# Altium schematic symbol library MEGA_Library.SchLib: 107 symbols
Pins are listed as number, name and electrical type; pins without a type are passive.

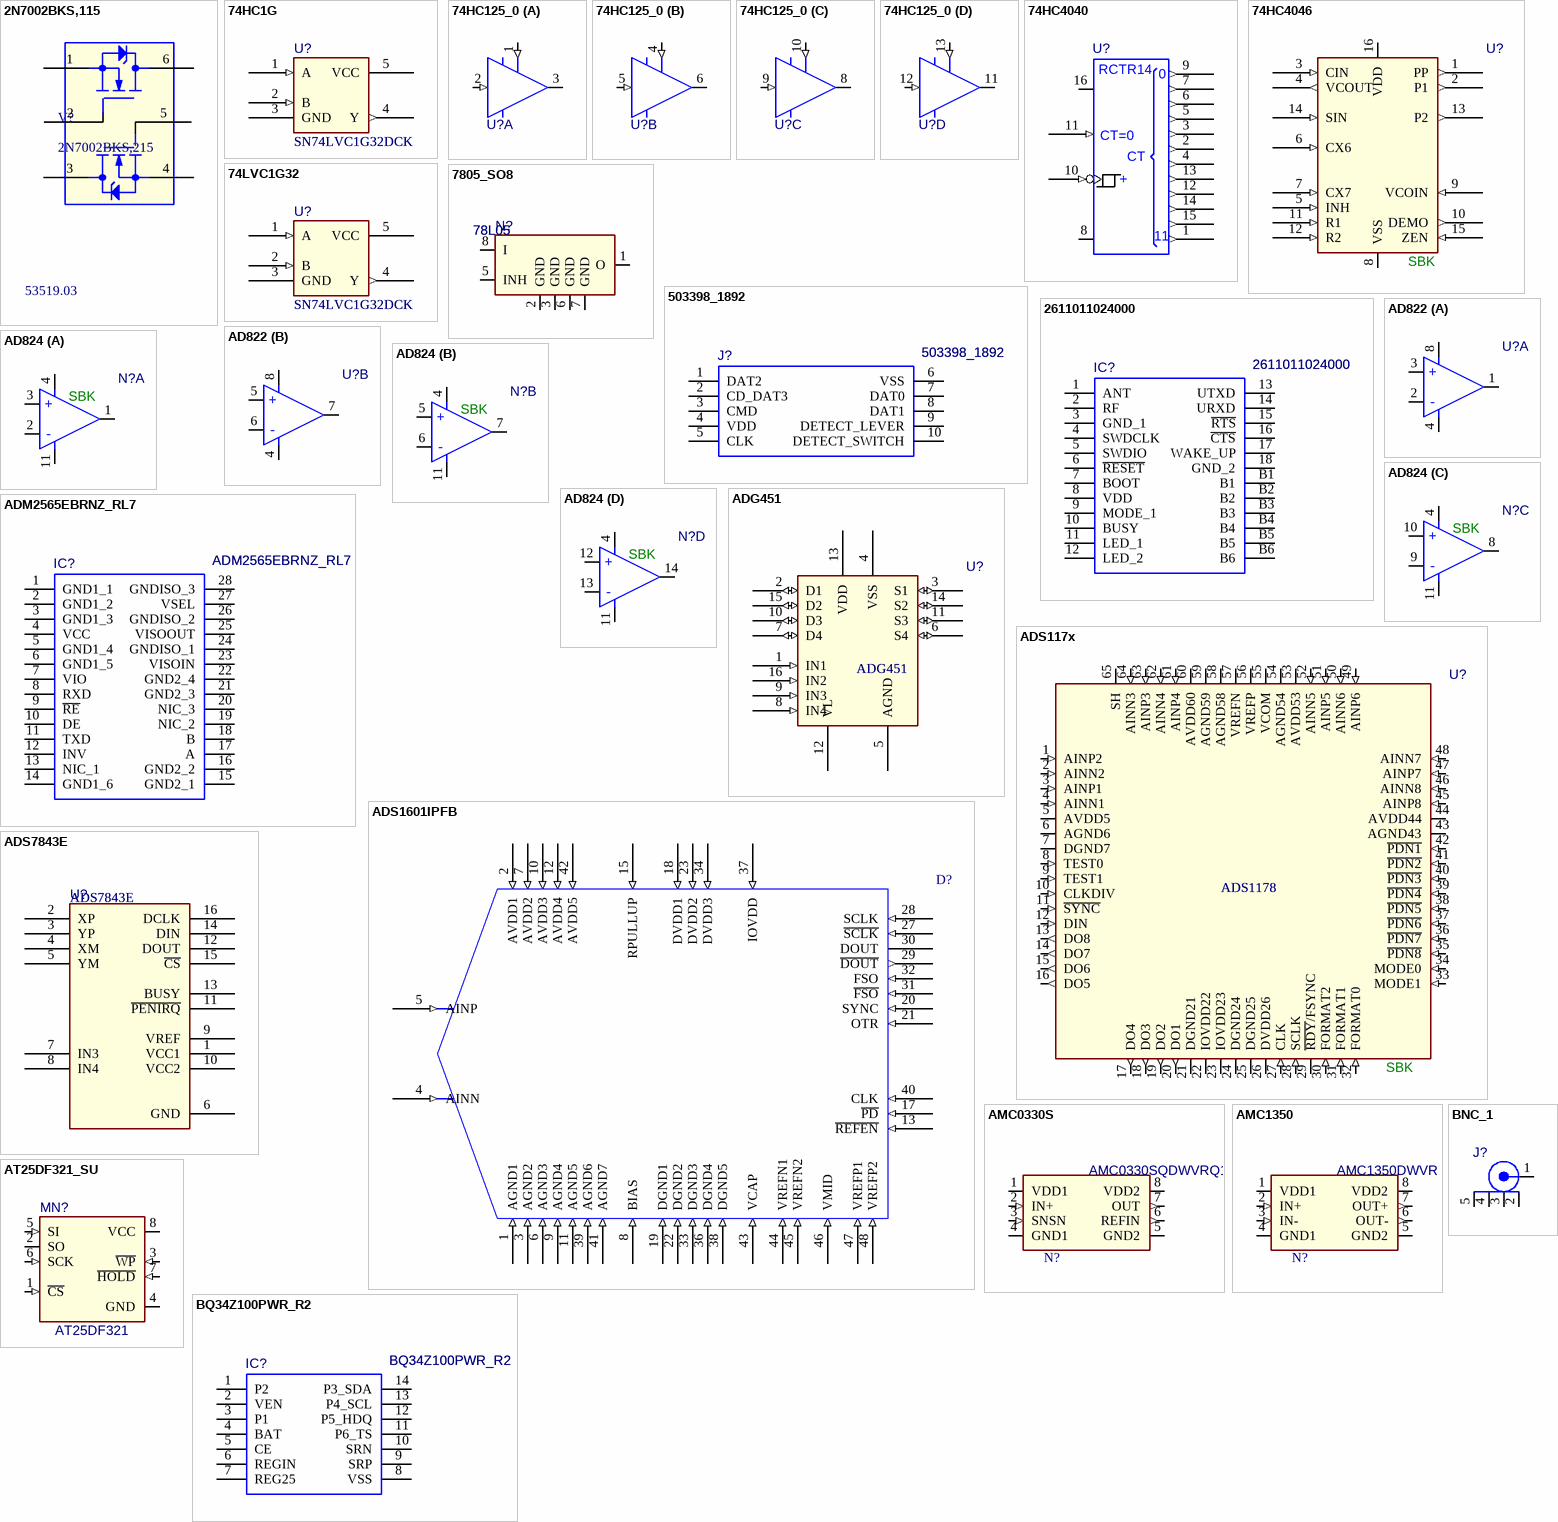
[diagram p0: symbols 2N7002BKS,115 to BQ34Z100PWR_R2]

## 2N7002BKS,115
designator V?, comment 2N7002BKS,215  MEgA_ID: 53519.03
Assembled: Automat; value: 2N7002BKS,215
footprint ZSC70_6
pins: 1 S1, 2 G1, 3 S3, 4 S1, 5 G2, 6 D1

## 74HC1G
designator U?, comment SN74LVC1G32DCK
Value: SN74LVC1G32DCK
footprint SOT-533
pins: 1 A (in), 2 B (in), 3 GND, 4 Y (out), 5 VCC

## 74HC125_0
designator U?
part A pins: 1 ~{OE} (in), 2 I (in), 3 O (hiz), 7 GND (power) hidden to GND, 14 VCC (power) hidden to VCC
part B pins: 4 ~{OE} (in), 5 I (in), 6 O (hiz), 7 GND (power) hidden to GND, 14 VCC (power) hidden to VCC
part C pins: 7 GND (power) hidden to GND, 8 O (hiz), 9 I (in), 10 ~{OE} (in), 14 VCC (power) hidden to VCC
part D pins: 7 GND (power) hidden to GND, 11 O (hiz), 12 I (in), 13 ~{OE} (in), 14 VCC (power) hidden to VCC

## 74HC4040
designator U?
pins: 1 Q12 (out), 2 Q6 (out), 3 Q5 (out), 4 Q7 (out), 5 Q4 (out), 6 Q3 (out), 7 Q2 (out), 8 VSS, 9 Q1 (out), 10 CLK (in), 11 CLR (in), 12 Q9 (out), 13 Q8 (out), 14 Q10 (out), 15 Q11 (out), 16 VDD
text: RCTR14; 0; CT=0; CT; +

## 74HC4046
designator U?  MEGA_ID: SBK
pins: 1 PP (out), 2 P1 (out), 3 CIN (in), 4 VCOUT (out), 5 INH (in), 6 CX6 (in), 7 CX7 (in), 8 VSS, 9 VCOIN (in), 10 DEMO (out), 11 R1 (in), 12 R2 (in), 13 P2 (out), 14 SIN (in), 15 ZEN (in), 16 VDD

## 74LVC1G32
designator U?, comment SN74LVC1G32DCK
Value: SN74LVC1G32DCK
footprint SOT-533
pins: 1 A (in), 2 B (in), 3 GND, 4 Y (out), 5 VCC

## 7805_SO8
designator N?, comment 78L05
Value: 78L05
footprint ZSO8
pins: 1 O, 2 GND, 3 GND, 5 INH, 6 GND, 7 GND, 8 I

## 503398_1892
designator J?
MicroSD SMT Push-Push 1.28mm height MicroSD SMT Push-Push 1.28mm height; Manufacturer_Part_Number: 503398-1892; Manufacturer_Name: Molex; OriginalSymbolOrigin: (0,0); NC: 11,12,13,14; PCB Footprint: 503398-1892-1; DeviceNumbering: Alpha; DeviceDesignator: A; DevicesInPackage: 1; IsHeterogeneous: False; Datasheet Link: http://www.molex.com/webdocs/datasheets/pdf/en-us//5033981892_MEMORY_CARD_SOCKET.pdf; Mouser Part Number: 538-503398-1892; DevicesInView: 1; PackageName: 503398_1892; Value: 503398_1892
footprint 503398-1892-1
pins: 1 DAT2, 2 CD_DAT3, 3 CMD, 4 VDD, 5 CLK, 6 VSS, 7 DAT0, 8 DAT1, 9 DETECT_LEVER, 10 DETECT_SWITCH

## 2611011024000
designator IC?
Bluetooth Modules (802.15.1) WIRL-BTLE Proteus-III Bluetooth 5.1 module; Manufacturer_Name: Wurth Elektronik; IsHeterogeneous: False; DevicesInView: 1; DeviceDesignator: A; DeviceNumbering: Alpha; OriginalSymbolOrigin: (0,0); PackageName: 2611011024000; DevicesInPackage: 1; PCB Footprint: 2611011024000; Mouser Part Number: 710-2611011024000; Manufacturer_Part_Number: 2611011024000; Datasheet Link: https://www.we-online.com/catalog/datasheet/2611011024000.pdf; Height: 2.2 mm; Value: 2611011024000
footprint 2611011024000
pins: 1 ANT, 2 RF, 3 GND_1, 4 SWDCLK, 5 SWDIO, 6 ~{RESET}, 7 BOOT, 8 VDD, 9 MODE_1, 10 BUSY, 11 LED_1, 12 LED_2, 13 UTXD, 14 URXD, 15 ~{RTS}, 16 ~{CTS}, 17 WAKE_UP, 18 GND_2, B1, B2, B3, B4, B5, B6

## AD822
designator U?
part A pins: 1 OUT, 2 -IN, 3 +IN, 4 V-, 8 V+
part B pins: 4 V-, 5 +IN, 6 -IN, 7 OUT, 8 V+
part A text: +; -
part B text: +; -

## AD824
designator N?  MEGA_ID: SBK
part A pins: 1 OUT, 2 IN-, 3 IN+, 4 V+, 11 V-
part B pins: 4 V+, 5 IN+, 6 IN-, 7 OUT, 11 V-
part C pins: 4 V+, 8 OUT, 9 IN-, 10 IN+, 11 V-
part D pins: 4 V+, 11 V-, 12 IN+, 13 IN-, 14 OUT
part A text: +; -
part B text: +; -
part C text: +; -
part D text: +; -

## ADG451
designator U?
Value: ADG451
pins: 1 IN1 (in), 2 D1 (io), 3 S1 (io), 4 VSS, 5 AGND, 6 S4 (io), 7 D4 (io), 8 IN4 (in), 9 IN3 (in), 10 D3 (io), 11 S3 (io), 12 VL, 13 VDD, 14 S2 (io), 15 D2 (io), 16 IN2 (in)

## ADM2565EBRNZ_RL7
designator IC?
1/1 Transceiver, Isolated CANbus 16-SOIC; Manufacturer_Part_Number: ADM2565EBRNZ-RL7; Manufacturer_Name: Analog Devices; OriginalSymbolOrigin: (0,0); PCB Footprint: SOP65P1030X265-28N; DeviceNumbering: Alpha; DeviceDesignator: A; DevicesInPackage: 1; IsHeterogeneous: False; Height: 2.65 mm; Datasheet Link: https://www.analog.com/media/en/technical-documentation/data-sheets/adm2561e_adm2563e_adm2565e_adm2567e.pdf; Mouser Part Number: 584-ADM2565EBRNZ-RL7; DevicesInView: 1; PackageName: ADM2565EBRNZ_RL7; Value: ADM2565EBRNZ_RL7
footprint SOP65P1030X265-28N
pins: 1 GND1_1, 2 GND1_2, 3 GND1_3, 4 VCC, 5 GND1_4, 6 GND1_5, 7 VIO, 8 RXD, 9 ~{RE}, 10 DE, 11 TXD, 12 INV, 13 NIC_1, 14 GND1_6, 15 GND2_1, 16 GND2_2, 17 A, 18 B, 19 NIC_2, 20 NIC_3, 21 GND2_3, 22 GND2_4, 23 VISOIN, 24 GNDISO_1, 25 VISOOUT, 26 GNDISO_2, 27 VSEL, 28 GNDISO_3

## ADS117x
designator U?, comment ADS1178  MEGA_ID: SBK
Value: ADS1178
pins: 1 AINP2 (in), 2 AINN2 (in), 3 AINP1 (in), 4 AINN1 (in), 5 AVDD5, 6 AGND6, 7 DGND7, 8 TEST0 (in), 9 TEST1 (in), 10 CLKDIV (in), 11 ~{SYNC} (in), 12 DIN (in), 13 DO8 (out), 14 DO7 (out), 15 DO6 (out), 16 DO5 (out), 17 DO4 (out), 18 DO3 (out), 19 DO2 (out), 20 DO1 (out), 21 DGND21, 22 IOVDD22, 23 IOVDD23, 24 DGND24, 25 DGND25, 26 DVDD26, 27 CLK (in), 28 SCLK (in), 29 ~{RDY}/FSYNC (io), 30 FORMAT2 (in), 31 FORMAT1 (in), 32 FORMAT0 (in), 33 MODE1 (in), 34 MODE0 (in), 35 ~{PDN8} (in), 36 ~{PDN7} (in), 37 ~{PDN6} (in), 38 ~{PDN5} (in), 39 ~{PDN4} (in), 40 ~{PDN3} (in), 41 ~{PDN2} (in), 42 ~{PDN1} (in), 43 AGND43, 44 AVDD44, 45 AINP8 (in), 46 AINN8 (in), 47 AINP7 (in), 48 AINN7 (in), 49 AINP6 (in), 50 AINN6 (in), 51 AINP5 (in), 52 AINN5 (in), 53 AVDD53, 54 AGND54, 55 VCOM, 56 VREFP, 57 VREFN, 58 AGND58, 59 AGND59, 60 AVDD60, 61 AINP4 (in), 62 AINN4 (in), 63 AINP3 (in), 64 AINN3 (in), 65 SH

## ADS1601IPFB
designator D?  (value not drawn)
pins: 1 AGND1 (in), 2 AVDD1 (in), 3 AGND2 (in), 4 AINN (in), 5 AINP (in), 6 AGND3 (in), 7 AVDD2 (in), 8 BIAS (in), 9 AGND4 (in), 10 AVDD3 (in), 11 AGND5 (in), 12 AVDD4 (in), 13 ~{REFEN} (in), 15 RPULLUP (in), 17 ~{PD} (in), 18 DVDD1 (in), 19 DGND1 (in), 20 SYNC (in), 21 OTR (in), 22 DGND2 (in), 23 DVDD2 (in), 27 ~{SCLK} (in), 28 SCLK (in), 29 ~{DOUT} (out), 30 DOUT, 31 ~{FSO} (in), 32 FSO (in), 33 DGND3 (in), 34 DVDD3 (in), 36 DGND4 (in), 37 IOVDD (in), 38 DGND5 (in), 39 AGND6 (in), 40 CLK (in), 41 AGND7 (in), 42 AVDD5 (in), 43 VCAP (in), 44 VREFN1 (in), 45 VREFN2 (in), 46 VMID (in), 47 VREFP1 (in), 48 VREFP2 (in)

## ADS7843E
designator U?
Value: ADS7843E
pins: 1 VCC1 (power), 2 XP, 3 YP, 4 XM, 5 YM, 6 GND, 7 IN3, 8 IN4, 9 VREF, 10 VCC2 (power), 11 ~{PENIRQ}, 12 DOUT, 13 BUSY, 14 DIN, 15 ~{CS}, 16 DCLK

## AMC0330S
designator N?, comment AMC0330SQDWVRQ1
Value: AMC0330SQDWVRQ1
footprint ZSO8_ISO
pins: 1 VDD1, 2 IN+ (in), 3 SNSN (in), 4 GND1, 5 GND2, 6 REFIN (out), 7 OUT (out), 8 VDD2

## AMC1350
designator N?, comment AMC1350DWVR
Value: AMC1350DWVR
footprint ZSO8_ISO
pins: 1 VDD1, 2 IN+ (in), 3 IN- (in), 4 GND1, 5 GND2, 6 OUT- (out), 7 OUT+ (out), 8 VDD2

## AT25DF321_SU
designator MN?  VAL: AT25DF321  (hidden comment: *)
TEN: 2,7..3,6V; REF: AT25DF321_SU; DESIG: 32 Mb Serial DataFlash; FAB: ATMEL; RoHS: YES
footprint SO8
pins: 1 ~{CS} (in), 2 SO (hiz), 3 ~{WP} (in), 4 GND, 5 SI (in), 6 SCK (in), 7 ~{HOLD} (in), 8 VCC

## BNC_1
designator J?
pins: 1 CENTER, 2 S1, 3 S2, 4 S3, 5 S4

## BQ34Z100PWR_R2
designator IC?
Battery Management Multi-chemistry Impedance Track stand-alone fuel gauge; Manufacturer_Part_Number: BQ34Z100PWR-R2; Manufacturer_Name: Texas Instruments; OriginalSymbolOrigin: (0,0); PCB Footprint: SOP65P640X120-14N; DeviceNumbering: Alpha; DeviceDesignator: A; DevicesInPackage: 1; IsHeterogeneous: False; Height: 1.2 mm; Datasheet Link: https://www.arrow.com/en/products/bq34z100pwr-r2/texas-instruments?region=nac; Mouser Part Number: 595-BQ34Z100PWR-R2; DevicesInView: 1; PackageName: BQ34Z100PWR_R2; Value: BQ34Z100PWR_R2
footprint SOP65P640X120-14N
pins: 1 P2, 2 VEN, 3 P1, 4 BAT, 5 CE, 6 REGIN, 7 REG25, 8 VSS, 9 SRP, 10 SRN, 11 P6_TS, 12 P5_HDQ, 13 P4_SCL, 14 P3_SDA

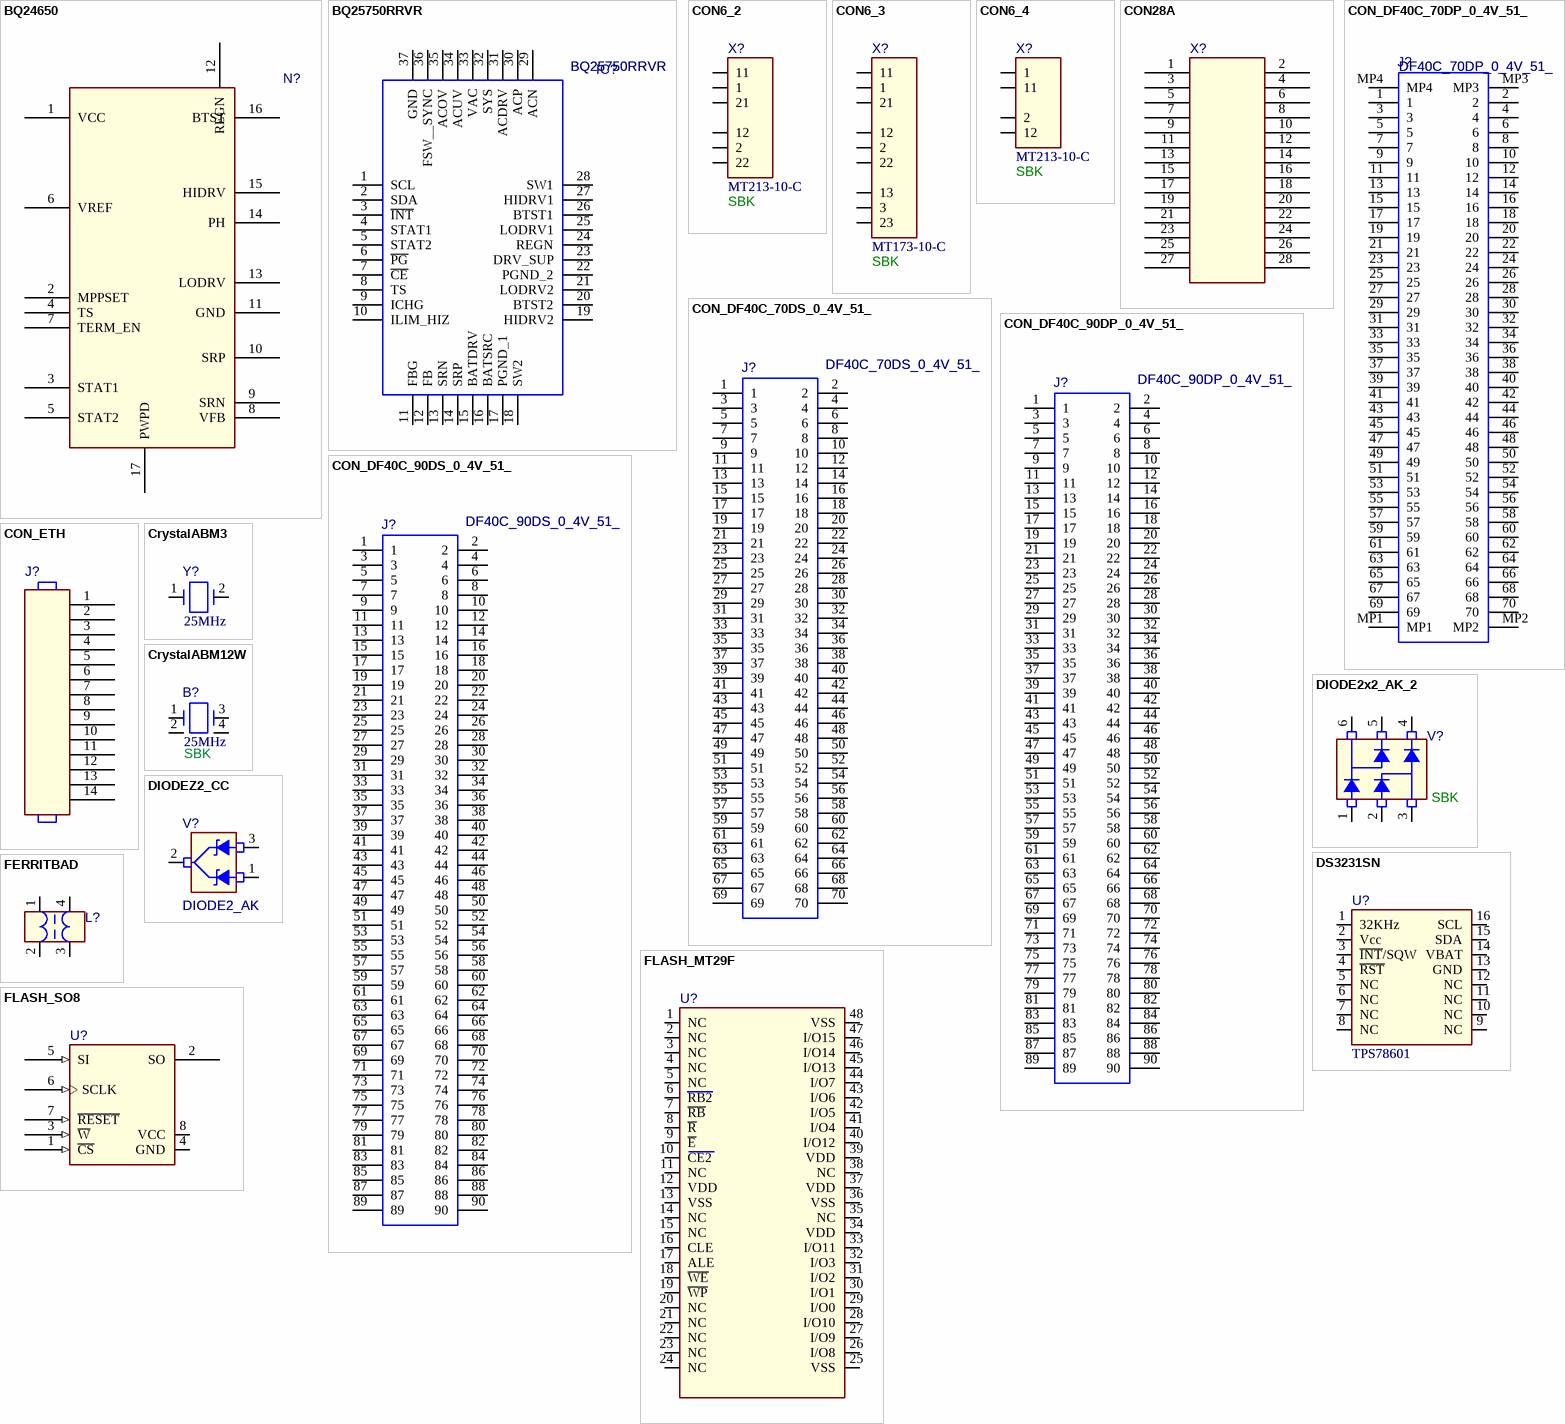
[diagram p1: symbols BQ24650 to FLASH_SO8]

## BQ24650
designator N?
footprint ZVQFN16
pins: 1 VCC, 2 MPPSET, 3 STAT1, 4 TS, 5 STAT2, 6 VREF, 7 TERM_EN, 8 VFB, 9 SRN, 10 SRP, 11 GND, 12 REGN, 13 LODRV, 14 PH, 15 HIDRV, 16 BTST, 17 PWPD

## BQ25750RRVR
designator IC?
Battery Management BQ25750RRVR; Manufacturer_Name: Texas Instruments; OriginalSymbolOrigin: (0,0); PCB Footprint: QFN50P600X500X100-37N-D; DeviceNumbering: Alpha; DeviceDesignator: A; DevicesInPackage: 1; IsHeterogeneous: False; Height: 1 mm; Datasheet Link: https://www.ti.com/lit/ds/symlink/bq25750.pdf?ts=1706776852121&ref_url=httpsýAüFüFwww.ti.comüFproductüFBQ25750; Manufacturer_Part_Number: BQ25750RRVR; Mouser Part Number: 595-BQ25750RRVR; DevicesInView: 1; PackageName: BQ25750RRVR; Value: BQ25750RRVR
footprint QFN50P600X500X100-37N-D
pins: 1 SCL, 2 SDA, 3 ~{INT}, 4 STAT1, 5 STAT2, 6 ~{PG}, 7 ~{CE}, 8 TS, 9 ICHG, 10 ILIM_HIZ, 11 FBG, 12 FB, 13 SRN, 14 SRP, 15 BATDRV, 16 BATSRC, 17 PGND_1, 18 SW2, 19 HIDRV2, 20 BTST2, 21 LODRV2, 22 PGND_2, 23 DRV_SUP, 24 REGN, 25 LODRV1, 26 BTST1, 27 HIDRV1, 28 SW1, 29 ACN, 30 ACP, 31 ACDRV, 32 SYS, 33 VAC, 34 ACUV, 35 ACOV, 36 FSW__SYNC, 37 GND

## CON6_2
designator X?, comment MT213-10-C  MEGA_ID: SBK
Value: MT213-10-C
pins: 1, 2, 11, 12, 21, 22

## CON6_3
designator X?, comment MT173-10-C  MEGA_ID: SBK
Value: MT173-10-C
pins: 1, 2, 3, 11, 12, 13, 21, 22, 23

## CON6_4
designator X?, comment MT213-10-C  MEGA_ID: SBK
Value: MT213-10-C
pins: 1, 2, 11, 12

## CON28A
designator X?
pins: 1, 2, 3, 4, 5, 6, 7, 8, 9, 10, 11, 12, 13, 14, 15, 16, 17, 18, 19, 20, 21, 22, 23, 24, 25, 26, 27, 28

## CON_DF40C_70DP_0_4V_51_
designator J?, comment DF40C_70DP_0_4V_51_
Board to Board & Mezzanine Connectors 0.4MM 70P HDR SMT GOLD; Manufacturer_Part_Number: DF40C-70DP-0.4V(51); Manufacturer_Name: Hirose; OriginalSymbolOrigin: (0,0); PCB Footprint: DF40C70DP04V51; DeviceNumbering: Alpha; DeviceDesignator: A; DevicesInPackage: 1; IsHeterogeneous: False; Height: 1.29 mm; Datasheet Link: https://componentsearchengine.com/Datasheets/1/DF40C-70DP-0.4V(51).pdf; Mouser Part Number: 798-DF40C70DP04V51; DevicesInView: 1; PackageName: DF40C_70DP_0_4V_51_; Value: DF40C_70DP_0_4V_51_
footprint DF40C70DP04V51
pins: 1, 2, 3, 4, 5, 6, 7, 8, 9, 10, 11, 12, 13, 14, 15, 16, 17, 18, 19, 20, 21, 22, 23, 24, 25, 26, 27, 28, 29, 30, 31, 32, 33, 34, 35, 36, 37, 38, 39, 40, 41, 42, 43, 44, 45, 46, 47, 48, 49, 50, 51, 52, 53, 54, 55, 56, 57, 58, 59, 60, 61, 62, 63, 64, 65, 66, 67, 68, 69, 70, MP1, MP2, MP3, MP4

## CON_DF40C_70DS_0_4V_51_
designator J?, comment DF40C_70DS_0_4V_51_
Board to Board & Mezzanine Connectors 0.4MM 70P RECPT SMT GOLD; Manufacturer_Part_Number: DF40C-70DS-0.4V(51); Manufacturer_Name: Hirose; OriginalSymbolOrigin: (0,0); PCB Footprint: DF40C-70DS-0_4V_51_; DeviceNumbering: Alpha; DeviceDesignator: A; DevicesInPackage: 1; IsHeterogeneous: False; Arrow Price/Stock: https://www.arrow.com/en/products/df40c-70ds-0.4v-51/hirose-electric; Arrow Part Number: DF40C-70DS-0.4V(51); Mouser Part Number: 798-DF40C70DS04V51; DevicesInView: 1; PackageName: DF40C_70DS_0_4V_51_; Value: DF40C_70DS_0_4V_51_
footprint DF40C-70DS-0_4V_51_
pins: 1, 2, 3, 4, 5, 6, 7, 8, 9, 10, 11, 12, 13, 14, 15, 16, 17, 18, 19, 20, 21, 22, 23, 24, 25, 26, 27, 28, 29, 30, 31, 32, 33, 34, 35, 36, 37, 38, 39, 40, 41, 42, 43, 44, 45, 46, 47, 48, 49, 50, 51, 52, 53, 54, 55, 56, 57, 58, 59, 60, 61, 62, 63, 64, 65, 66, 67, 68, 69, 70

## CON_DF40C_90DP_0_4V_51_
designator J?, comment DF40C_90DP_0_4V_51_
Board to Board & Mezzanine Connectors 0.4MM 90P SMT HEADR VERT NO FITTING; Manufacturer_Part_Number: DF40C-90DP-0.4V(51); Manufacturer_Name: Hirose; OriginalSymbolOrigin: (0,0); PCB Footprint: DF40C90DP04V51; DeviceNumbering: Alpha; DeviceDesignator: A; DevicesInPackage: 1; IsHeterogeneous: False; Height: 1.29 mm; Datasheet Link: https://www.mouser.com/datasheet/2/185/F40_CL0594-5578-0-00_2d-1613514.pdf; Mouser Part Number: 798-DF40C90DP0.4V51; DevicesInView: 1; PackageName: DF40C_90DP_0_4V_51_; Value: DF40C_90DP_0_4V_51_
footprint DF40C90DP04V51
pins: 1, 2, 3, 4, 5, 6, 7, 8, 9, 10, 11, 12, 13, 14, 15, 16, 17, 18, 19, 20, 21, 22, 23, 24, 25, 26, 27, 28, 29, 30, 31, 32, 33, 34, 35, 36, 37, 38, 39, 40, 41, 42, 43, 44, 45, 46, 47, 48, 49, 50, 51, 52, 53, 54, 55, 56, 57, 58, 59, 60, 61, 62, 63, 64, 65, 66, 67, 68, 69, 70, 71, 72, 73, 74, 75, 76, 77, 78, 79, 80, 81, 82, 83, 84, 85, 86, 87, 88, 89, 90

## CON_DF40C_90DS_0_4V_51_
designator J?, comment DF40C_90DS_0_4V_51_
HIROSE(HRS) - DF40C-90DS-0.4V(51) - CONNECTOR, STACKING, RCPT, 90POS, 2ROW; OriginalSymbolOrigin: (0,0); PCB Footprint: DF40C-90DS-0_4V; DeviceNumbering: Alpha; DeviceDesignator: A; DevicesInPackage: 1; IsHeterogeneous: False; Mouser Part Number: 798-DF40C90DS0.4V51; Manufacturer_Part_Number: DF40C-90DS-0.4V(51); Manufacturer_Name: Hirose; DevicesInView: 1; PackageName: DF40C_90DS_0_4V_51_; Value: DF40C_90DS_0_4V_51_
footprint DF40C-90DS-0_4V
pins: 1, 2, 3, 4, 5, 6, 7, 8, 9, 10, 11, 12, 13, 14, 15, 16, 17, 18, 19, 20, 21, 22, 23, 24, 25, 26, 27, 28, 29, 30, 31, 32, 33, 34, 35, 36, 37, 38, 39, 40, 41, 42, 43, 44, 45, 46, 47, 48, 49, 50, 51, 52, 53, 54, 55, 56, 57, 58, 59, 60, 61, 62, 63, 64, 65, 66, 67, 68, 69, 70, 71, 72, 73, 74, 75, 76, 77, 78, 79, 80, 81, 82, 83, 84, 85, 86, 87, 88, 89, 90

## CON_ETH
designator J?
pins: 1, 2, 3, 4, 5, 6, 7, 8, 9, 10, 11, 12, 13, 14

## CrystalABM3
designator Y?, comment 25MHz
PCB Footprint: smdABM; Value: 25MHz
footprint SM_OSC_ABM3
pins: 1, 2

## CrystalABM12W
designator B?, comment 25MHz  MEGA_ID: SBK
Value: 25MHz
footprint ZABM12W
pins: 1, 2, 3, 4

## DIODE2x2_AK_2
designator V?  MEGA_ID: SBK
footprint ZSOT363
pins: 1 A1, 2 A2, 3 AK2, 4 K2, 5 K1, 6 AK1

## DIODEZ2_CC
designator V?, comment DIODE2_AK
Value: DIODE2_AK
footprint ZSOT23
pins: 1 A1, 2 K1K2, 3 A2

## DS3231SN
designator U?, comment TPS78601
Single Output LDO, 1.5A, Adj. 1.2 to 5.5V; PartName: U - TPS78601-ADJ LDO; Mfr: TI; MfrNum: TPS78601DCQ; Vendor: Digikey; VendorNum: 296-13755-1-ND; Cost100: 1.89; Cost10K: 1.654; TI Footprint: SOT-223; Value: TPS78601
footprint SMT-DCQ
pins: 1 32KHz, 2 Vcc, 3 ~{INT}/SQW, 4 ~{RST}, 5 NC, 6 NC, 7 NC, 8 NC, 9 NC, 10 NC, 11 NC, 12 NC, 13 GND, 14 VBAT, 15 SDA, 16 SCL

## FERRITBAD
designator L?
pins: 1, 2, 3, 4

## FLASH_MT29F
designator U?
pins: 1 NC, 2 NC, 3 NC, 4 NC, 5 NC, 6 RB2, 7 ~{RB}, 8 ~{R}, 9 ~{E}, 10 CE2, 11 NC, 12 VDD, 13 VSS, 14 NC, 15 NC, 16 CLE, 17 ALE, 18 ~{WE}, 19 ~{WP}, 20 NC, 21 NC, 22 NC, 23 NC, 24 NC, 25 VSS, 26 I/O8, 27 I/O9, 28 I/O10, 29 I/O0, 30 I/O1, 31 I/O2, 32 I/O3, 33 I/O11, 34 VDD, 35 NC, 36 VSS, 37 VDD, 38 NC, 39 VDD, 40 I/O12, 41 I/O4, 42 I/O5, 43 I/O6, 44 I/O7, 45 I/O13, 46 I/O14, 47 I/O15, 48 VSS

## FLASH_SO8
designator U?
pins: 1 ~{CS} (in), 2 SO (hiz), 3 ~{W} (in), 4 GND, 5 SI (in), 6 SCLK (in), 7 ~{RESET} (in), 8 VCC

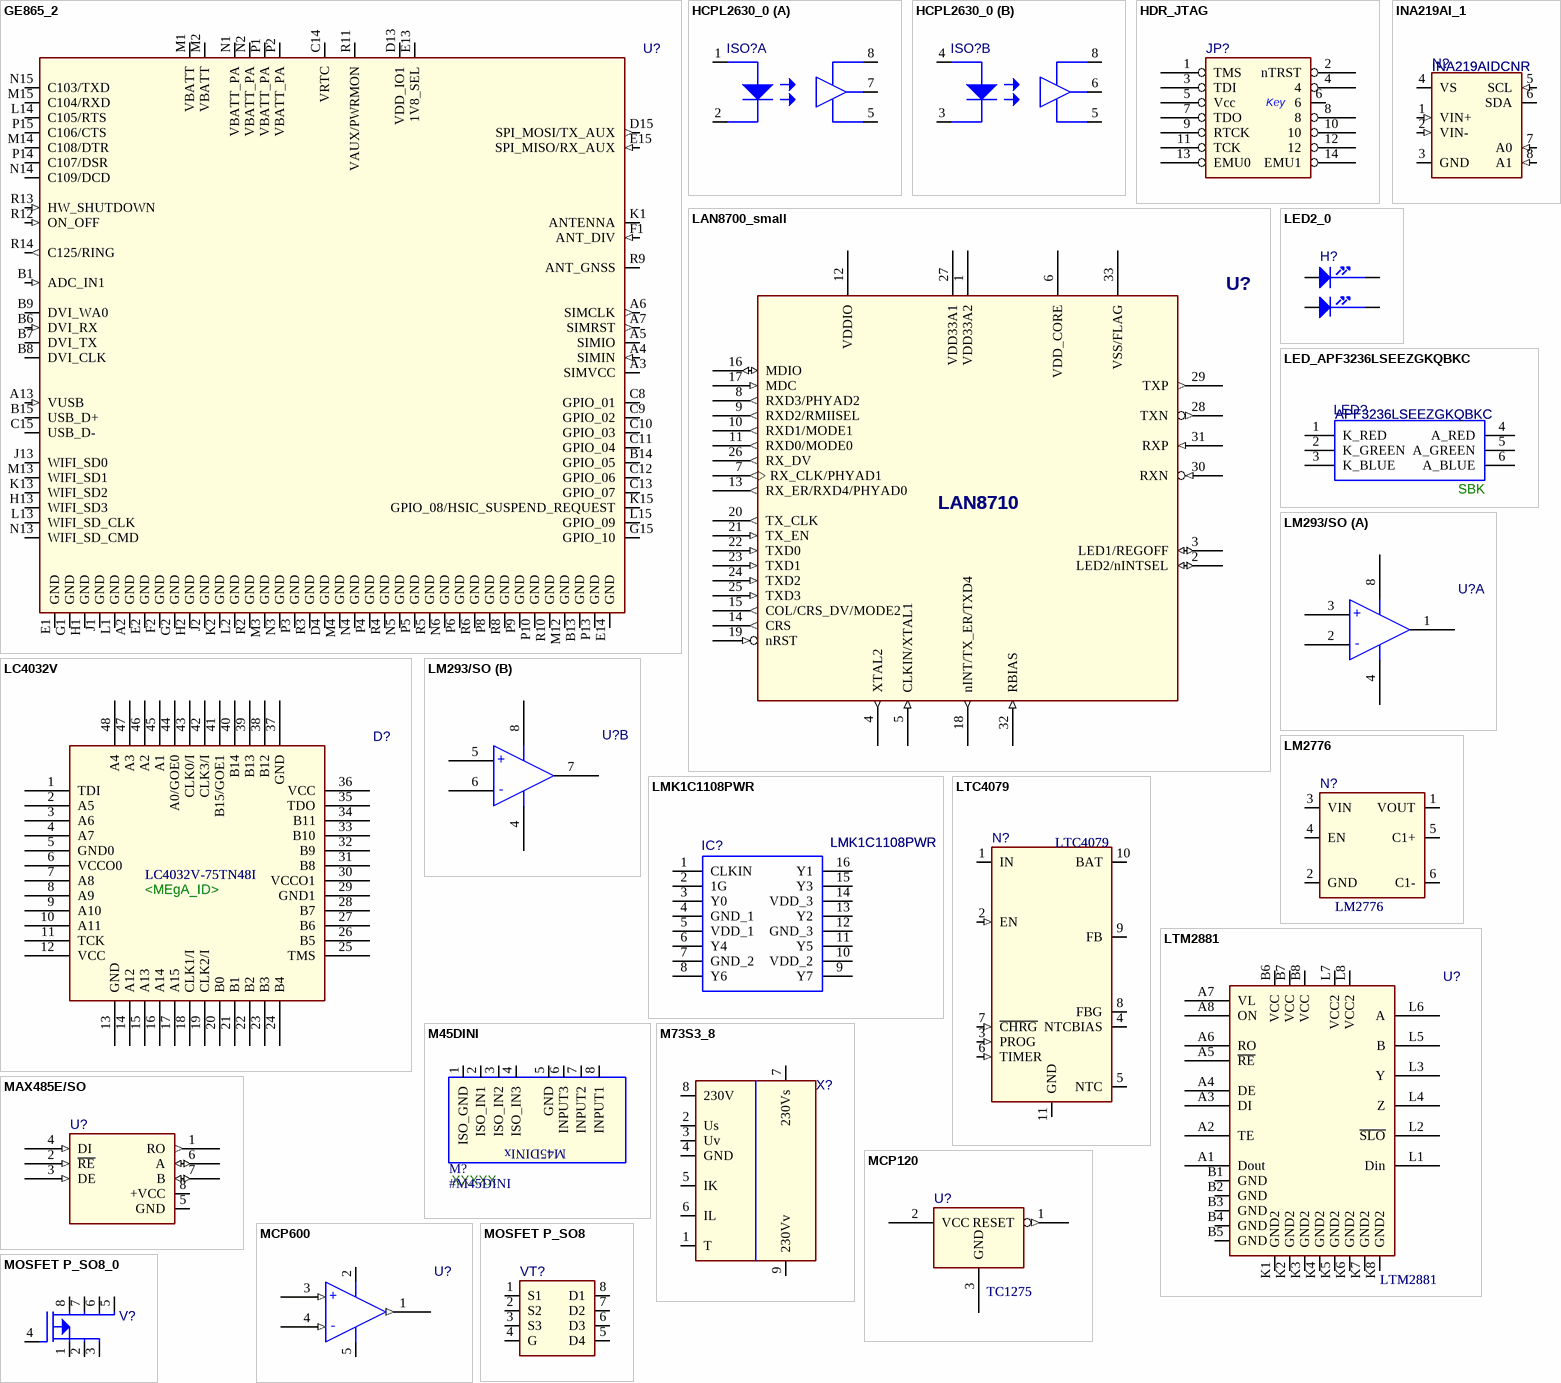
[diagram p2: symbols GE865_2 to MOSFET P_SO8_0]

## GE865_2
designator U?
pins: A2 GND, A3 SIMVCC (power), A4 SIMIN (in), A5 SIMIO (io), A6 SIMCLK (out), A7 SIMRST (out), A13 VUSB (in), B1 ADC_IN1 (in), B6 DVI_RX (in), B7 DVI_TX (io), B8 DVI_CLK (io), B9 DVI_WA0 (io), B13 GND, B14 GPIO_05 (io), B15 USB_D+ (io), C8 GPIO_01 (io), C9 GPIO_02 (io), C10 GPIO_03 (io), C11 GPIO_04 (io), C12 GPIO_06 (io), C13 GPIO_07 (io), C14 VRTC, C15 USB_D- (io), D4 GND, D13 VDD_IO1, D15 SPI_MOSI/TX_AUX (out), E1 GND, E2 GND, E13 1V8_SEL, E14 GND, E15 SPI_MISO/RX_AUX (in), F1 ANT_DIV (in), F2 GND, G1 GND, G2 GND, G15 GPIO_10 (io), H1 GND, H2 GND, H13 WIFI_SD3 (io), J1 GND, J2 GND, J13 WIFI_SD0 (io), K1 ANTENNA (io), K2 GND, K13 WIFI_SD2 (io), K15 GPIO_08/HSIC_SUSPEND_REQUEST (io), L1 GND, L2 GND, L13 WIFI_SD_CLK (io), L14 C105/RTS, L15 GPIO_09 (io), M1 VBATT, M2 VBATT, M3 GND, M4 GND, M12 GND, M13 WIFI_SD1 (io), M14 C108/DTR, M15 C104/RXD, N1 VBATT_PA, N2 VBATT_PA, N3 GND, N4 GND, N5 GND, N6 GND, N13 WIFI_SD_CMD (io), N14 C109/DCD, N15 C103/TXD, P1 VBATT_PA, P2 VBATT_PA, P3 GND, P4 GND, P5 GND, P6 GND, P8 GND, P9 GND, P10 GND, P13 GND, P14 C107/DSR, P15 C106/CTS, R2 GND, R3 GND, R4 GND, R5 GND, R6 GND, R8 GND, R9 ANT_GNSS (io), R10 GND, R11 VAUX/PWRMON, R12 ON_OFF (in), R13 HW_SHUTDOWN (in), R14 C125/RING (out)

## HCPL2630_0
designator ISO?
part A pins: 1 A, 2 K, 5 GND, 7 OUTPUT, 8 VCC
part B pins: 3 K, 4 A, 5 GND, 6 OUTPUT, 8 VCC
1 alternate drawing of the same symbol

## HDR_JTAG
designator JP?
footprint HDR_7X2
pins: 1 TMS, 2 nTRST, 3 TDI, 4, 5 Vcc, 6, 7 TDO, 8, 9 RTCK, 10, 11 TCK, 12, 13 EMU0, 14 EMU1
text: Key

## INA219AI_1
designator N?, comment INA219AIDCNR
Value: INA219AIDCNR
footprint TO92A
pins: 1 VIN+ (in), 2 VIN- (in), 3 GND, 4 VS, 5 SCL (in), 6 SDA (io), 7 A0 (in), 8 A1 (in)

## LAN8700_small
designator U?, comment LAN8710
Value: LAN8710
pins: 1 VDD33A2, 2 LED2/nINTSEL (io), 3 LED1/REGOFF (io), 4 XTAL2 (out), 5 CLKIN/XTAL1 (in), 6 VDD_CORE, 7 RX_CLK/PHYAD1 (out), 8 RXD3/PHYAD2 (out), 9 RXD2/RMIISEL (out), 10 RXD1/MODE1 (out), 11 RXD0/MODE0 (out), 12 VDDIO, 13 RX_ER/RXD4/PHYAD0 (out), 14 CRS (out), 15 COL/CRS_DV/MODE2 (out), 16 MDIO (io), 17 MDC (in), 18 nINT/TX_ER/TXD4 (out), 19 nRST (in), 20 TX_CLK (out), 21 TX_EN (in), 22 TXD0 (in), 23 TXD1 (in), 24 TXD2 (in), 25 TXD3 (in), 26 RX_DV (out), 27 VDD33A1, 28 TXN (out), 29 TXP (out), 30 RXN (in), 31 RXP (in), 32 RBIAS (in), 33 VSS/FLAG

## LC4032V
designator D?, comment LC4032V-75TN48I  MEgA_ID: <MEgA_ID>
Value: LC4032V-75TN48I
footprint ZTQFP48
pins: 1 TDI, 2 A5, 3 A6, 4 A7, 5 GND0, 6 VCCO0, 7 A8, 8 A9, 9 A10, 10 A11, 11 TCK, 12 VCC, 13 GND, 14 A12, 15 A13, 16 A14, 17 A15, 18 CLK1/I, 19 CLK2/I, 20 B0, 21 B1, 22 B2, 23 B3, 24 B4, 25 TMS, 26 B5, 27 B6, 28 B7, 29 GND1, 30 VCCO1, 31 B8, 32 B9, 33 B10, 34 B11, 35 TDO, 36 VCC, 37 GND, 38 B12, 39 B13, 40 B14, 41 B15/GOE1, 42 CLK3/I, 43 CLK0/I, 44 A0/GOE0, 45 A1, 46 A2, 47 A3, 48 A4

## LED2_0
designator H?
pins: 1 A, 2 K, 3 A, 4 K

## LED_APF3236LSEEZGKQBKC
designator LED?, comment APF3236LSEEZGKQBKC  MEGA_ID: SBK
Standard LEDs - SMD 3.2x3.6MM LOW CU RGB SMD 3.2 mm x 3.6 mm Full-Color Surface Mount LED Lamp; Manufacturer_Name: Kingbright; IsHeterogeneous: False; DevicesInView: 1; DeviceDesignator: A; DeviceNumbering: Alpha; OriginalSymbolOrigin: (0,0); PackageName: APF3236LSEEZGKQBKC; DevicesInPackage: 1; PCB Footprint: APF3236LSEEZGKQBKC; Manufacturer_Part_Number: APF3236LSEEZGKQBKC; Mouser Part Number: 604-APF3236LSEEZGKQB; Arrow Part Number: APF3236LSEEZGKQBKC; Arrow Price/Stock: https://www.arrow.com/en/products/apf3236lseezgkqbkc/kingbright; Datasheet Link: https://static6.arrow.com/aropdfconversion/7b6029bc286460b194d919f4cef09b67dfbc1901/apf3236lseezgkqbkc.pdf; Height: 1.1 mm; Value: APF3236LSEEZGKQBKC
footprint APF3236LSEEZGKQBKC
pins: 1 K_RED, 2 K_GREEN, 3 K_BLUE, 4 A_RED, 5 A_GREEN, 6 A_BLUE

## LM293/SO
designator U?
part A pins: 1 OUT, 2 -IN, 3 +IN, 4 V-, 8 V+
part B pins: 4 V-, 5 +IN, 6 -IN, 7 OUT, 8 V+
part A text: +; -
part B text: +; -

## LM2776
designator N?
Value: LM2776
footprint SOT23-6
pins: 1 VOUT, 2 GND, 3 VIN, 4 EN, 5 C1+ (oe), 6 C1- (oc)

## LMK1C1108PWR
designator IC?
Manufacturer_Name: Texas Instruments; OriginalSymbolOrigin: (0,0); PCB Footprint: SOP65P640X120-16N; DeviceNumbering: Alpha; DeviceDesignator: A; DevicesInPackage: 1; IsHeterogeneous: False; Height: 1.2 mm; Datasheet Link: https://www.ti.com/lit/ds/symlink/lmk1c1108.pdf; Manufacturer_Part_Number: LMK1C1108PWR; Mouser Part Number: 595-LMK1C1108PWR; DevicesInView: 1; PackageName: LMK1C1108PWR; Value: LMK1C1108PWR
footprint SOP65P640X120-16N
pins: 1 CLKIN, 2 1G, 3 Y0, 4 GND_1, 5 VDD_1, 6 Y4, 7 GND_2, 8 Y6, 9 Y7, 10 VDD_2, 11 Y5, 12 GND_3, 13 Y2, 14 VDD_3, 15 Y3, 16 Y1

## LTC4079
designator N?
Value: LTC4079
footprint ZDQFN10
pins: 1 IN, 2 EN (in), 3 PROG (in), 4 NTCBIAS, 5 NTC, 6 TIMER (in), 7 ~{CHRG} (in), 8 FBG, 9 FB, 10 BAT, 11 GND

## LTM2881
designator U?
Value: LTM2881
pins: A1 Dout, A2 TE, A3 DI, A4 DE, A5 ~{RE}, A6 RO, A7 VL, A8 ON, B1 GND, B2 GND, B3 GND, B4 GND, B5 GND, B6 VCC, B7 VCC, B8 VCC, K1 GND2, K2 GND2, K3 GND2, K4 GND2, K5 GND2, K6 GND2, K7 GND2, K8 GND2, L1 Din, L2 ~{SLO}, L3 Y, L4 Z, L5 B, L6 A, L7 VCC2, L8 VCC2

## M45DINI
designator M?, comment #M45DINI  MEgA_ID: XXXXX
Assembled: Manual; Value: #M45DINI
footprint M45DINIx
pins: 1 ISO_GND (power), 2 ISO_IN1 (power), 3 ISO_IN2 (power), 4 ISO_IN3 (power), 5 GND (power), 6 INPUT3 (power), 7 INPUT2 (power), 8 INPUT1 (power)
text: M45DINIx

## M73S3_8
designator X?
pins: 1 T, 2 Us, 3 Uv, 4 GND, 5 IK, 6 IL, 7 230Vs, 8 230V, 9 230Vv

## MAX485E/SO
designator U?
pins: 1 RO (out), 2 ~{RE} (in), 3 DE (in), 4 DI (in), 5 GND, 6 A (io), 7 B (io), 8 +VCC

## MCP120
designator U?, comment TC1275
Value: TC1275
pins: 1 RESET (out), 2 VCC (power), 3 GND (power)

## MCP600
designator U?
pins: 1 OUT (out), 2 VCC, 3 +IN (in), 4 -IN (in), 5 VEE
text: +; -

## MOSFET P_SO8
designator VT?
pins: 1 S1, 2 S2, 3 S3, 4 G, 5 D4, 6 D3, 7 D2, 8 D1

## MOSFET P_SO8_0
designator V?
footprint ZSO8
pins: 1 S1, 2 S2, 3 S3, 4 G, 5 D4, 6 D3, 7 D2, 8 D1

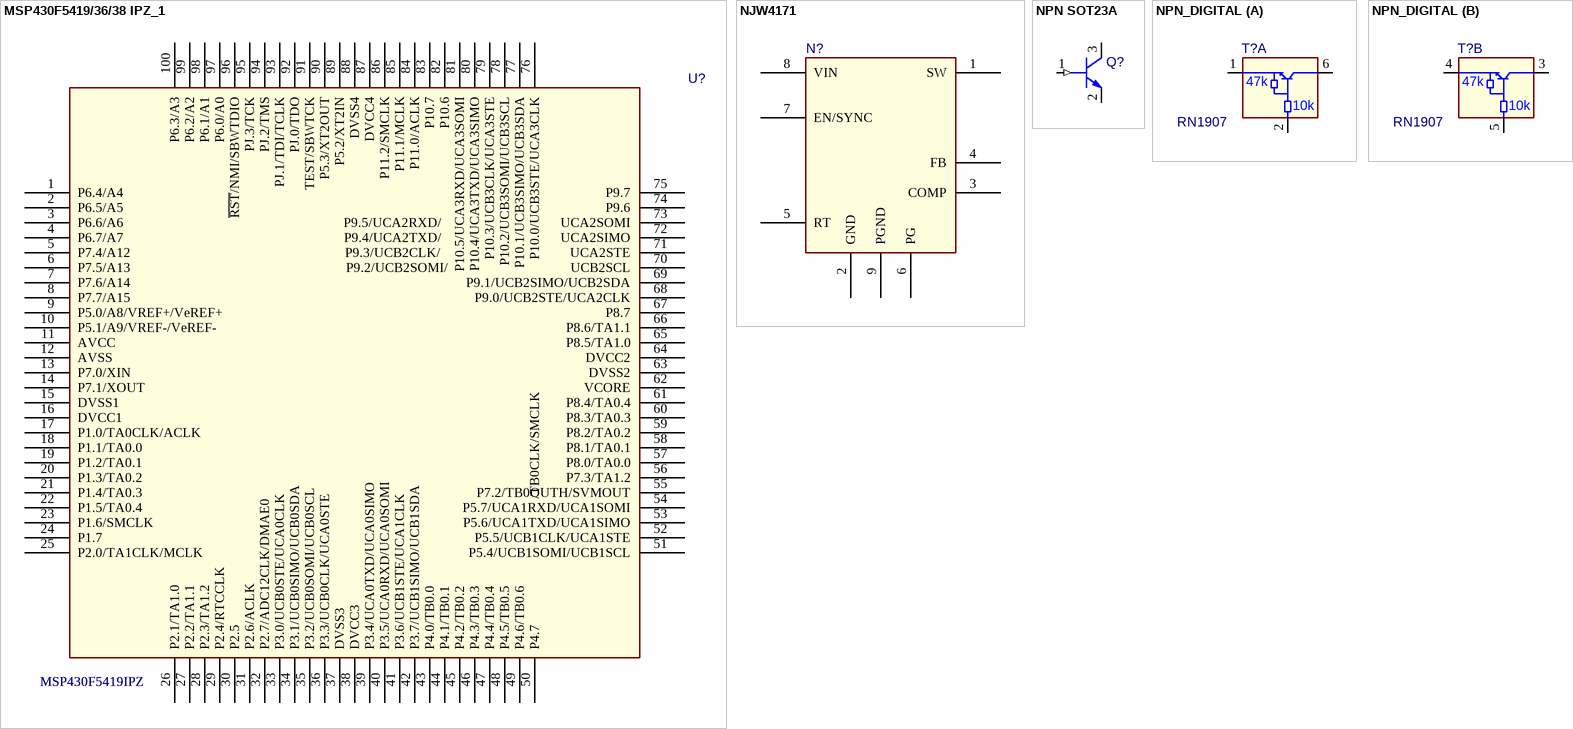
[diagram p3: symbols MSP430F5419/36/38 IPZ_1 to NPN_DIGITAL]

## MSP430F5419/36/38 IPZ_1
designator U?, comment MSP430F5419IPZ
Value: MSP430F5419IPZ
pins: 1 P6.4/A4, 2 P6.5/A5, 3 P6.6/A6, 4 P6.7/A7, 5 P7.4/A12, 6 P7.5/A13, 7 P7.6/A14, 8 P7.7/A15, 9 P5.0/A8/VREF+/VeREF+, 10 P5.1/A9/VREF-/VeREF-, 11 AVCC, 12 AVSS, 13 P7.0/XIN, 14 P7.1/XOUT, 15 DVSS1, 16 DVCC1, 17 P1.0/TA0CLK/ACLK, 18 P1.1/TA0.0, 19 P1.2/TA0.1, 20 P1.3/TA0.2, 21 P1.4/TA0.3, 22 P1.5/TA0.4, 23 P1.6/SMCLK, 24 P1.7, 25 P2.0/TA1CLK/MCLK, 26 P2.1/TA1.0, 27 P2.2/TA1.1, 28 P2.3/TA1.2, 29 P2.4/RTCCLK, 30 P2.5, 31 P2.6/ACLK, 32 P2.7/ADC12CLK/DMAE0, 33 P3.0/UCB0STE/UCA0CLK, 34 P3.1/UCB0SIMO/UCB0SDA, 35 P3.2/UCB0SOMI/UCB0SCL, 36 P3.3/UCB0CLK/UCA0STE, 37 DVSS3, 38 DVCC3, 39 P3.4/UCA0TXD/UCA0SIMO, 40 P3.5/UCA0RXD/UCA0SOMI, 41 P3.6/UCB1STE/UCA1CLK, 42 P3.7/UCB1SIMO/UCB1SDA, 43 P4.0/TB0.0, 44 P4.1/TB0.1, 45 P4.2/TB0.2, 46 P4.3/TB0.3, 47 P4.4/TB0.4, 48 P4.5/TB0.5, 49 P4.6/TB0.6, 50 P4.7                                    /TB0CLK/SMCLK, 51 P5.4/UCB1SOMI/UCB1SCL, 52 P5.5/UCB1CLK/UCA1STE, 53 P5.6/UCA1TXD/UCA1SIMO, 54 P5.7/UCA1RXD/UCA1SOMI, 55 P7.2/TB0OUTH/SVMOUT, 56 P7.3/TA1.2, 57 P8.0/TA0.0, 58 P8.1/TA0.1, 59 P8.2/TA0.2, 60 P8.3/TA0.3, 61 P8.4/TA0.4, 62 VCORE, 63 DVSS2, 64 DVCC2, 65 P8.5/TA1.0, 66 P8.6/TA1.1, 67 P8.7, 68 P9.0/UCB2STE/UCA2CLK, 69 P9.1/UCB2SIMO/UCB2SDA, 70 P9.2/UCB2SOMI/                                   UCB2SCL, 71 P9.3/UCB2CLK/                                     UCA2STE, 72 P9.4/UCA2TXD/                                  UCA2SIMO, 73 P9.5/UCA2RXD/                                  UCA2SOMI, 74 P9.6, 75 P9.7, 76 P10.0/UCB3STE/UCA3CLK, 77 P10.1/UCB3SIMO/UCB3SDA, 78 P10.2/UCB3SOMI/UCB3SCL, 79 P10.3/UCB3CLK/UCA3STE, 80 P10.4/UCA3TXD/UCA3SIMO, 81 P10.5/UCA3RXD/UCA3SOMI, 82 P10.6, 83 P10.7, 84 P11.0/ACLK, 85 P11.1/MCLK, 86 P11.2/SMCLK, 87 DVCC4, 88 DVSS4, 89 P5.2/XT2IN, 90 P5.3/XT2OUT, 91 TEST/SBWTCK, 92 PJ.0/TDO, 93 PJ.1/TDI/TCLK, 94 PJ.2/TMS, 95 PJ.3/TCK, 96 ~{RST}/NMI/SBWTDIO, 97 P6.0/A0, 98 P6.1/A1, 99 P6.2/A2, 100 P6.3/A3

## NJW4171
designator N?
pins: 1 SW, 2 GND, 3 COMP, 4 FB, 5 RT, 6 PG, 7 EN/SYNC, 8 VIN, 9 PGND

## NPN SOT23A
designator Q?
pins: 1 BASE (in), 2 EMITTER, 3 COLLECTOR

## NPN_DIGITAL
designator T?, comment RN1907
Value: RN1907
footprint P-SOT363-6-1
part A pins: 1 4, 2 5, 6 3
part B pins: 3, 4, 5
part A text: 47k; 10k
part B text: 47k; 10k

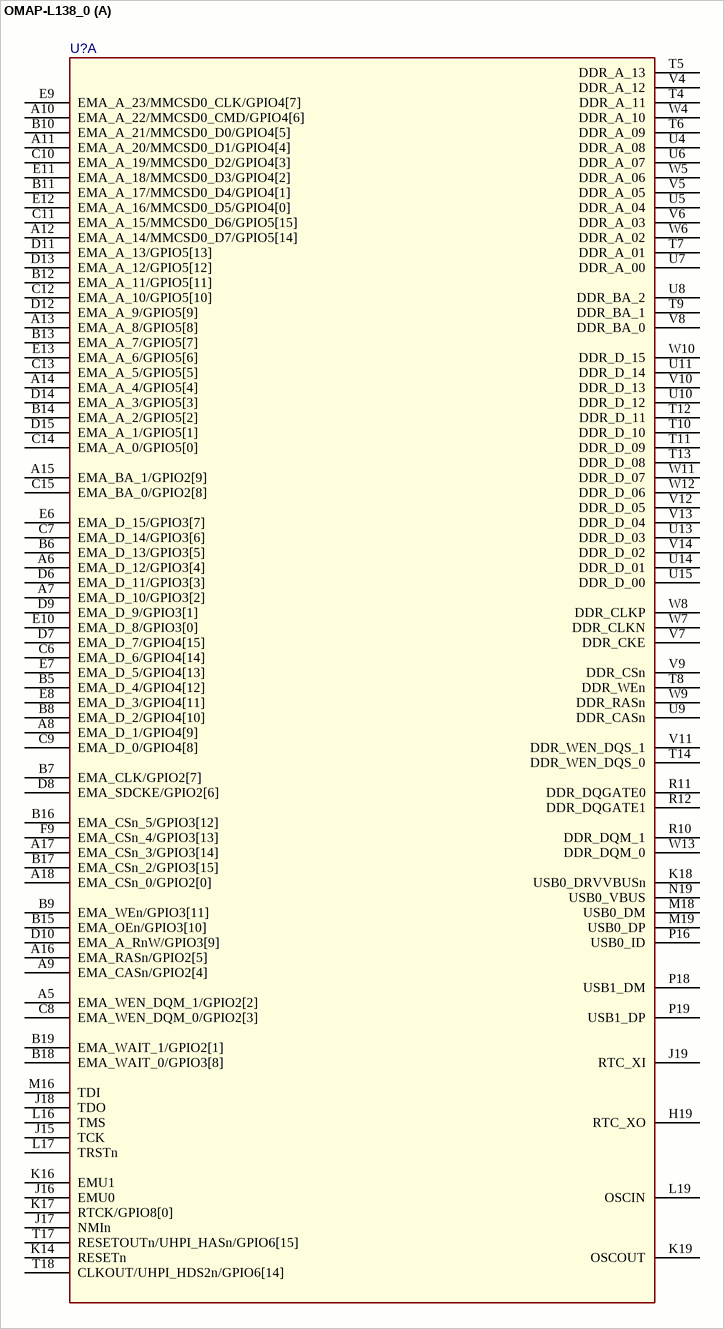
[diagram p4: symbol OMAP-L138_0]

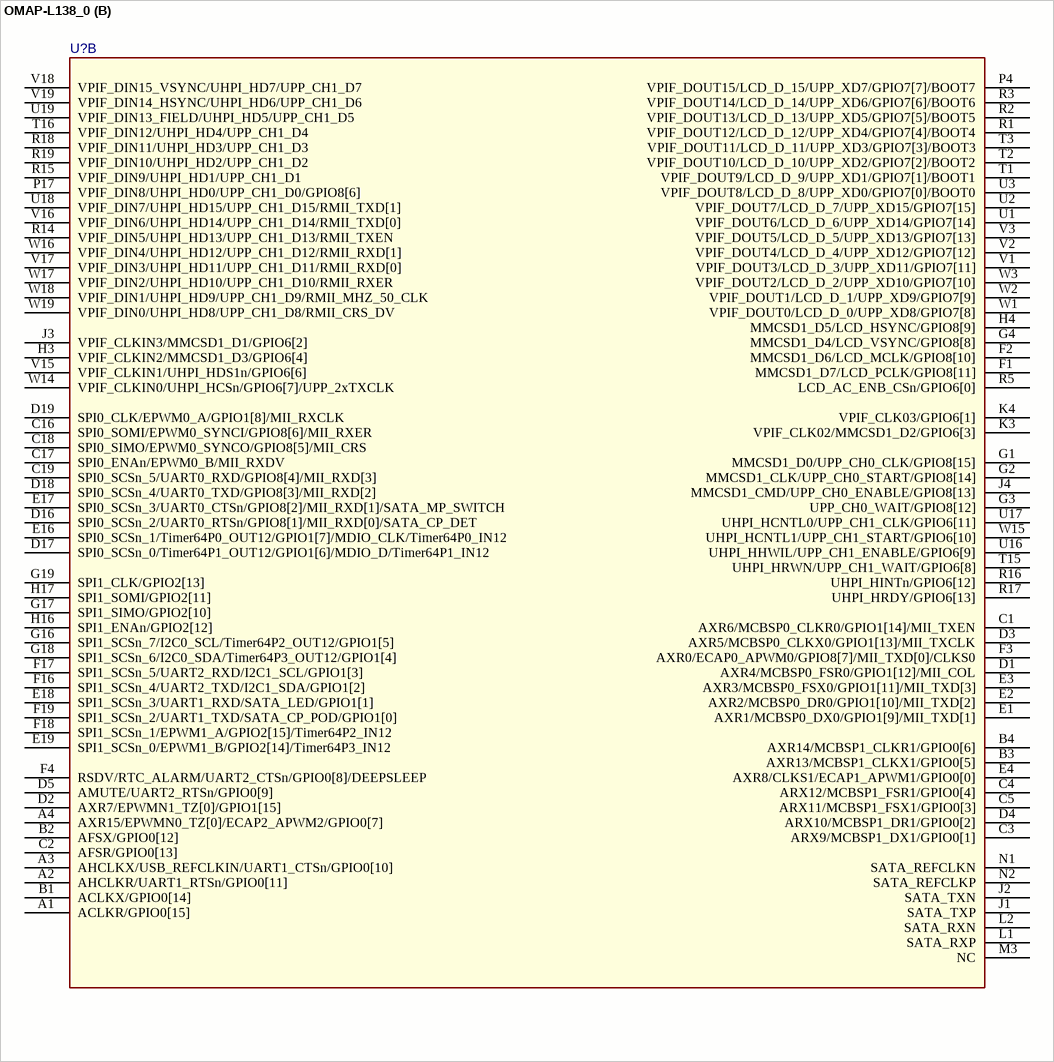
[diagram p5: symbol OMAP-L138_0]

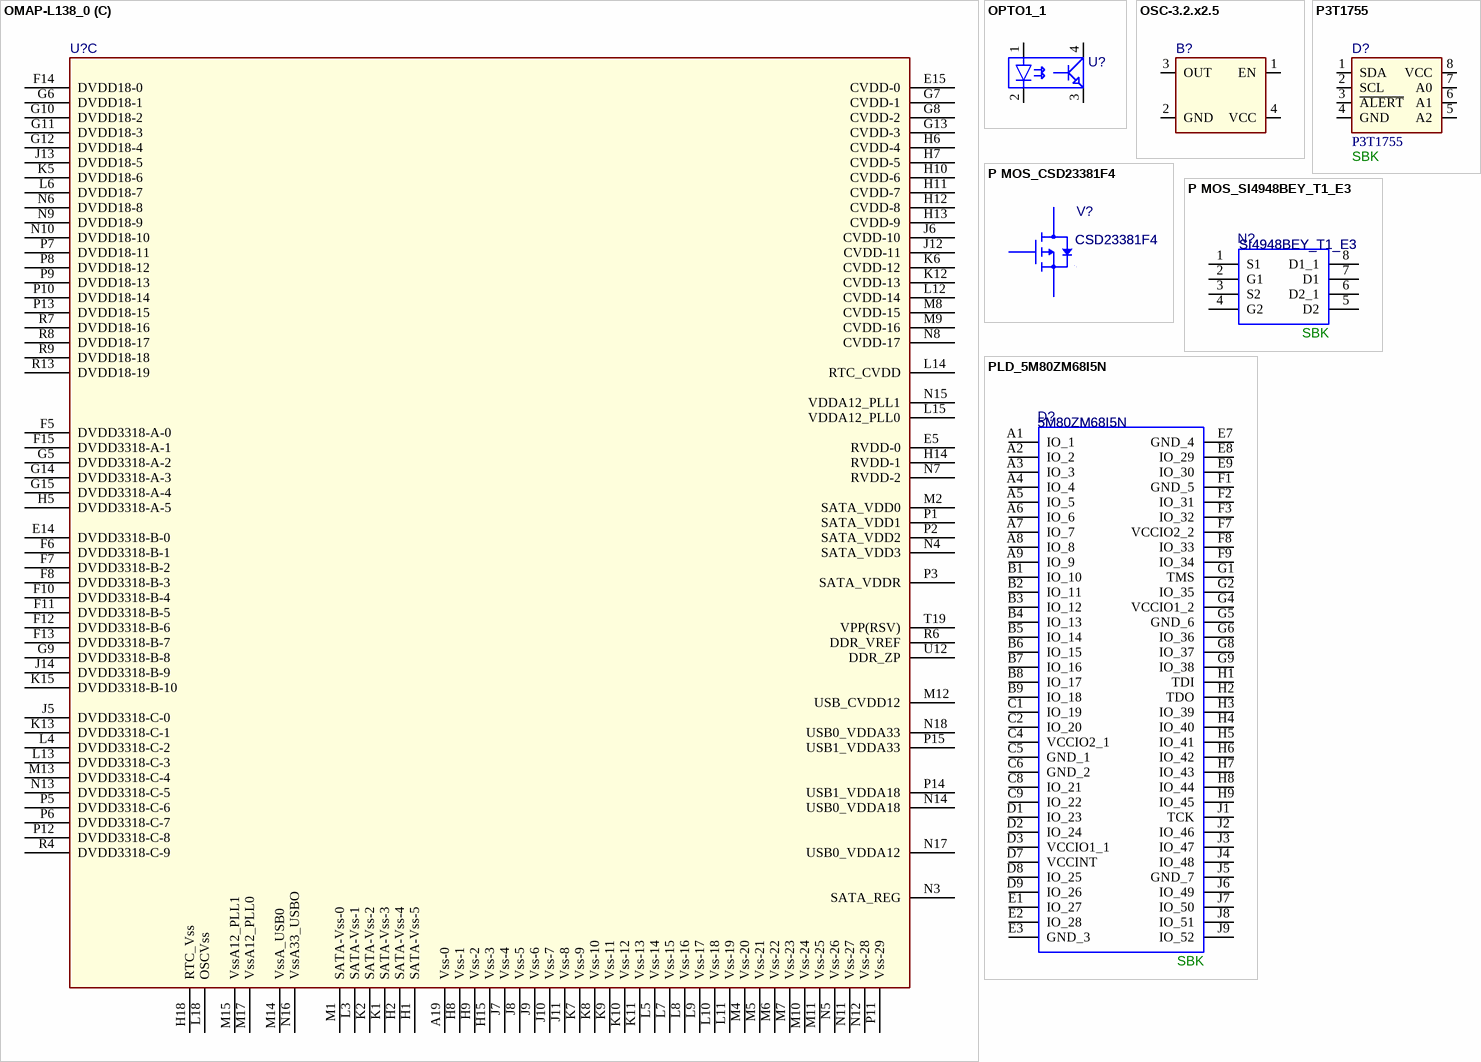
[diagram p6: symbols OMAP-L138_0 to PLD_5M80ZM68I5N]

## OMAP-L138_0
designator U?
part A pins: A5 EMA_WEN_DQM_1/GPIO2[2], A6 EMA_D_12/GPIO3[4], A7 EMA_D_10/GPIO3[2], A8 EMA_D_1/GPIO4[9], A9 EMA_CASn/GPIO2[4], A10 EMA_A_22/MMCSD0_CMD/GPIO4[6], A11 EMA_A_20/MMCSD0_D1/GPIO4[4], A12 EMA_A_14/MMCSD0_D7/GPIO5[14], A13 EMA_A_8/GPIO5[8], A14 EMA_A_4/GPIO5[4], A15 EMA_BA_1/GPIO2[9], A16 EMA_RASn/GPIO2[5], A17 EMA_CSn_3/GPIO3[14], A18 EMA_CSn_0/GPIO2[0], B5 EMA_D_4/GPIO4[12], B6 EMA_D_13/GPIO3[5], B7 EMA_CLK/GPIO2[7], B8 EMA_D_2/GPIO4[10], B9 EMA_WEn/GPIO3[11], B10 EMA_A_21/MMCSD0_D0/GPIO4[5], B11 EMA_A_17/MMCSD0_D4/GPIO4[1], B12 EMA_A_11/GPIO5[11], B13 EMA_A_7/GPIO5[7], B14 EMA_A_2/GPIO5[2], B15 EMA_OEn/GPIO3[10], B16 EMA_CSn_5/GPIO3[12], B17 EMA_CSn_2/GPIO3[15], B18 EMA_WAIT_0/GPIO3[8], B19 EMA_WAIT_1/GPIO2[1], C6 EMA_D_6/GPIO4[14], C7 EMA_D_14/GPIO3[6], C8 EMA_WEN_DQM_0/GPIO2[3], C9 EMA_D_0/GPIO4[8], C10 EMA_A_19/MMCSD0_D2/GPIO4[3], C11 EMA_A_15/MMCSD0_D6/GPIO5[15], C12 EMA_A_10/GPIO5[10], C13 EMA_A_5/GPIO5[5], C14 EMA_A_0/GPIO5[0], C15 EMA_BA_0/GPIO2[8], D6 EMA_D_11/GPIO3[3], D7 EMA_D_7/GPIO4[15], D8 EMA_SDCKE/GPIO2[6], D9 EMA_D_9/GPIO3[1], D10 EMA_A_RnW/GPIO3[9], D11 EMA_A_13/GPIO5[13], D12 EMA_A_9/GPIO5[9], D13 EMA_A_12/GPIO5[12], D14 EMA_A_3/GPIO5[3], D15 EMA_A_1/GPIO5[1], E6 EMA_D_15/GPIO3[7], E7 EMA_D_5/GPIO4[13], E8 EMA_D_3/GPIO4[11], E9 EMA_A_23/MMCSD0_CLK/GPIO4[7], E10 EMA_D_8/GPIO3[0], E11 EMA_A_18/MMCSD0_D3/GPIO4[2], E12 EMA_A_16/MMCSD0_D5/GPIO4[0], E13 EMA_A_6/GPIO5[6], F9 EMA_CSn_4/GPIO3[13], H19 RTC_XO, J15 TCK, J16 EMU0, J17 NMIn, J18 TDO, J19 RTC_XI, K14 RESETn, K16 EMU1, K17 RTCK/GPIO8[0], K18 USB0_DRVVBUSn, K19 OSCOUT, L16 TMS, L17 TRSTn, L19 OSCIN, M16 TDI, M18 USB0_DM, M19 USB0_DP, N19 USB0_VBUS, P16 USB0_ID, P18 USB1_DM, P19 USB1_DP, R10 DDR_DQM_1, R11 DDR_DQGATE0, R12 DDR_DQGATE1, T4 DDR_A_11, T5 DDR_A_13, T6 DDR_A_09, T7 DDR_A_01, T8 DDR_WEn, T9 DDR_BA_1, T10 DDR_D_10, T11 DDR_D_09, T12 DDR_D_11, T13 DDR_D_08, T14 DDR_WEN_DQS_0, T17 RESETOUTn/UHPI_HASn/GPIO6[15], T18 CLKOUT/UHPI_HDS2n/GPIO6[14], U4 DDR_A_08, U5 DDR_A_04, U6 DDR_A_07, U7 DDR_A_00, U8 DDR_BA_2, U9 DDR_CASn, U10 DDR_D_12, U11 DDR_D_14, U13 DDR_D_03, U14 DDR_D_01, U15 DDR_D_00, V4 DDR_A_12, V5 DDR_A_05, V6 DDR_A_03, V7 DDR_CKE, V8 DDR_BA_0, V9 DDR_CSn, V10 DDR_D_13, V11 DDR_WEN_DQS_1, V12 DDR_D_05, V13 DDR_D_04, V14 DDR_D_02, W4 DDR_A_10, W5 DDR_A_06, W6 DDR_A_02, W7 DDR_CLKN, W8 DDR_CLKP, W9 DDR_RASn, W10 DDR_D_15, W11 DDR_D_07, W12 DDR_D_06, W13 DDR_DQM_0
part B pins: A1 ACLKR/GPIO0[15], A2 AHCLKR/UART1_RTSn/GPIO0[11], A3 AHCLKX/USB_REFCLKIN/UART1_CTSn/GPIO0[10], A4 AXR15/EPWMN0_TZ[0]/ECAP2_APWM2/GPIO0[7], B1 ACLKX/GPIO0[14], B2 AFSX/GPIO0[12], B3 AXR13/MCBSP1_CLKX1/GPIO0[5], B4 AXR14/MCBSP1_CLKR1/GPIO0[6], C1 AXR6/MCBSP0_CLKR0/GPIO1[14]/MII_TXEN, C2 AFSR/GPIO0[13], C3 ARX9/MCBSP1_DX1/GPIO0[1], C4 ARX12/MCBSP1_FSR1/GPIO0[4], C5 ARX11/MCBSP1_FSX1/GPIO0[3], C16 SPI0_SOMI/EPWM0_SYNCI/GPIO8[6]/MII_RXER, C17 SPI0_ENAn/EPWM0_B/MII_RXDV, C18 SPI0_SIMO/EPWM0_SYNCO/GPIO8[5]/MII_CRS, C19 SPI0_SCSn_5/UART0_RXD/GPIO8[4]/MII_RXD[3], D1 AXR4/MCBSP0_FSR0/GPIO1[12]/MII_COL, D2 AXR7/EPWMN1_TZ[0]/GPIO1[15], D3 AXR5/MCBSP0_CLKX0/GPIO1[13]/MII_TXCLK, D4 ARX10/MCBSP1_DR1/GPIO0[2], D5 AMUTE/UART2_RTSn/GPIO0[9], D16 SPI0_SCSn_2/UART0_RTSn/GPIO8[1]/MII_RXD[0]/SATA_CP_DET, D17 SPI0_SCSn_0/Timer64P1_OUT12/GPIO1[6]/MDIO_D/Timer64P1_IN12, D18 SPI0_SCSn_4/UART0_TXD/GPIO8[3]/MII_RXD[2], D19 SPI0_CLK/EPWM0_A/GPIO1[8]/MII_RXCLK, E1 AXR1/MCBSP0_DX0/GPIO1[9]/MII_TXD[1], E2 AXR2/MCBSP0_DR0/GPIO1[10]/MII_TXD[2], E3 AXR3/MCBSP0_FSX0/GPIO1[11]/MII_TXD[3], E4 AXR8/CLKS1/ECAP1_APWM1/GPIO0[0], E16 SPI0_SCSn_1/Timer64P0_OUT12/GPIO1[7]/MDIO_CLK/Timer64P0_IN12, E17 SPI0_SCSn_3/UART0_CTSn/GPIO8[2]/MII_RXD[1]/SATA_MP_SWITCH, E18 SPI1_SCSn_3/UART1_RXD/SATA_LED/GPIO1[1], E19 SPI1_SCSn_0/EPWM1_B/GPIO2[14]/Timer64P3_IN12, F1 MMCSD1_D7/LCD_PCLK/GPIO8[11], F2 MMCSD1_D6/LCD_MCLK/GPIO8[10], F3 AXR0/ECAP0_APWM0/GPIO8[7]/MII_TXD[0]/CLKS0, F4 RSDV/RTC_ALARM/UART2_CTSn/GPIO0[8]/DEEPSLEEP, F16 SPI1_SCSn_4/UART2_TXD/I2C1_SDA/GPIO1[2], F17 SPI1_SCSn_5/UART2_RXD/I2C1_SCL/GPIO1[3], F18 SPI1_SCSn_1/EPWM1_A/GPIO2[15]/Timer64P2_IN12, F19 SPI1_SCSn_2/UART1_TXD/SATA_CP_POD/GPIO1[0], G1 MMCSD1_D0/UPP_CH0_CLK/GPIO8[15], G2 MMCSD1_CLK/UPP_CH0_START/GPIO8[14], G3 UPP_CH0_WAIT/GPIO8[12], G4 MMCSD1_D4/LCD_VSYNC/GPIO8[8], G16 SPI1_SCSn_7/I2C0_SCL/Timer64P2_OUT12/GPIO1[5], G17 SPI1_SIMO/GPIO2[10], G18 SPI1_SCSn_6/I2C0_SDA/Timer64P3_OUT12/GPIO1[4], G19 SPI1_CLK/GPIO2[13], H3 VPIF_CLKIN2/MMCSD1_D3/GPIO6[4], H4 MMCSD1_D5/LCD_HSYNC/GPIO8[9], H16 SPI1_ENAn/GPIO2[12], H17 SPI1_SOMI/GPIO2[11], J1 SATA_TXP, J2 SATA_TXN, J3 VPIF_CLKIN3/MMCSD1_D1/GPIO6[2], J4 MMCSD1_CMD/UPP_CH0_ENABLE/GPIO8[13], K3 VPIF_CLK02/MMCSD1_D2/GPIO6[3], K4 VPIF_CLK03/GPIO6[1], L1 SATA_RXP, L2 SATA_RXN, M3 NC, N1 SATA_REFCLKN, N2 SATA_REFCLKP, P4 VPIF_DOUT15/LCD_D_15/UPP_XD7/GPIO7[7]/BOOT7, P17 VPIF_DIN8/UHPI_HD0/UPP_CH1_D0/GPIO8[6], R1 VPIF_DOUT12/LCD_D_12/UPP_XD4/GPIO7[4]/BOOT4, R2 VPIF_DOUT13/LCD_D_13/UPP_XD5/GPIO7[5]/BOOT5, R3 VPIF_DOUT14/LCD_D_14/UPP_XD6/GPIO7[6]/BOOT6, R5 LCD_AC_ENB_CSn/GPIO6[0], R14 VPIF_DIN5/UHPI_HD13/UPP_CH1_D13/RMII_TXEN, R15 VPIF_DIN9/UHPI_HD1/UPP_CH1_D1, R16 UHPI_HINTn/GPIO6[12], R17 UHPI_HRDY/GPIO6[13], R18 VPIF_DIN11/UHPI_HD3/UPP_CH1_D3, R19 VPIF_DIN10/UHPI_HD2/UPP_CH1_D2, T1 VPIF_DOUT9/LCD_D_9/UPP_XD1/GPIO7[1]/BOOT1, T2 VPIF_DOUT10/LCD_D_10/UPP_XD2/GPIO7[2]/BOOT2, T3 VPIF_DOUT11/LCD_D_11/UPP_XD3/GPIO7[3]/BOOT3, T15 UHPI_HRWN/UPP_CH1_WAIT/GPIO6[8], T16 VPIF_DIN12/UHPI_HD4/UPP_CH1_D4, U1 VPIF_DOUT6/LCD_D_6/UPP_XD14/GPIO7[14], U2 VPIF_DOUT7/LCD_D_7/UPP_XD15/GPIO7[15], U3 VPIF_DOUT8/LCD_D_8/UPP_XD0/GPIO7[0]/BOOT0, U16 UHPI_HHWIL/UPP_CH1_ENABLE/GPIO6[9], U17 UHPI_HCNTL0/UPP_CH1_CLK/GPIO6[11], U18 VPIF_DIN7/UHPI_HD15/UPP_CH1_D15/RMII_TXD[1], U19 VPIF_DIN13_FIELD/UHPI_HD5/UPP_CH1_D5, V1 VPIF_DOUT3/LCD_D_3/UPP_XD11/GPIO7[11], V2 VPIF_DOUT4/LCD_D_4/UPP_XD12/GPIO7[12], V3 VPIF_DOUT5/LCD_D_5/UPP_XD13/GPIO7[13], V15 VPIF_CLKIN1/UHPI_HDS1n/GPIO6[6], V16 VPIF_DIN6/UHPI_HD14/UPP_CH1_D14/RMII_TXD[0], V17 VPIF_DIN3/UHPI_HD11/UPP_CH1_D11/RMII_RXD[0], V18 VPIF_DIN15_VSYNC/UHPI_HD7/UPP_CH1_D7, V19 VPIF_DIN14_HSYNC/UHPI_HD6/UPP_CH1_D6, W1 VPIF_DOUT0/LCD_D_0/UPP_XD8/GPIO7[8], W2 VPIF_DOUT1/LCD_D_1/UPP_XD9/GPIO7[9], W3 VPIF_DOUT2/LCD_D_2/UPP_XD10/GPIO7[10], W14 VPIF_CLKIN0/UHPI_HCSn/GPIO6[7]/UPP_2xTXCLK, W15 UHPI_HCNTL1/UPP_CH1_START/GPIO6[10], W16 VPIF_DIN4/UHPI_HD12/UPP_CH1_D12/RMII_RXD[1], W17 VPIF_DIN2/UHPI_HD10/UPP_CH1_D10/RMII_RXER, W18 VPIF_DIN1/UHPI_HD9/UPP_CH1_D9/RMII_MHZ_50_CLK, W19 VPIF_DIN0/UHPI_HD8/UPP_CH1_D8/RMII_CRS_DV
part C pins: A19 Vss-0, E5 RVDD-0, E14 DVDD3318-B-0, E15 CVDD-0, F5 DVDD3318-A-0, F6 DVDD3318-B-1, F7 DVDD3318-B-2, F8 DVDD3318-B-3, F10 DVDD3318-B-4, F11 DVDD3318-B-5, F12 DVDD3318-B-6, F13 DVDD3318-B-7, F14 DVDD18-0, F15 DVDD3318-A-1, G5 DVDD3318-A-2, G6 DVDD18-1, G7 CVDD-1, G8 CVDD-2, G9 DVDD3318-B-8, G10 DVDD18-2, G11 DVDD18-3, G12 DVDD18-4, G13 CVDD-3, G14 DVDD3318-A-3, G15 DVDD3318-A-4, H1 SATA-Vss-5, H2 SATA-Vss-4, H5 DVDD3318-A-5, H6 CVDD-4, H7 CVDD-5, H8 Vss-1, H9 Vss-2, H10 CVDD-6, H11 CVDD-7, H12 CVDD-8, H13 CVDD-9, H14 RVDD-1, H15 Vss-3, H18 RTC_Vss, J5 DVDD3318-C-0, J6 CVDD-10, J7 Vss-4, J8 Vss-5, J9 Vss-6, J10 Vss-7, J11 Vss-8, J12 CVDD-11, J13 DVDD18-5, J14 DVDD3318-B-9, K1 SATA-Vss-3, K2 SATA-Vss-2, K5 DVDD18-6, K6 CVDD-12, K7 Vss-9, K8 Vss-10, K9 Vss-11, K10 Vss-12, K11 Vss-13, K12 CVDD-13, K13 DVDD3318-C-1, K15 DVDD3318-B-10, L3 SATA-Vss-1, L4 DVDD3318-C-2, L5 Vss-14, L6 DVDD18-7, L7 Vss-15, L8 Vss-16, L9 Vss-17, L10 Vss-18, L11 Vss-19, L12 CVDD-14, L13 DVDD3318-C-3, L14 RTC_CVDD, L15 VDDA12_PLL0, L18 OSCVss, M1 SATA-Vss-0, M2 SATA_VDD0, M4 Vss-20, M5 Vss-21, M6 Vss-22, M7 Vss-23, M8 CVDD-15, M9 CVDD-16, M10 Vss-24, M11 Vss-25, M12 USB_CVDD12, M13 DVDD3318-C-4, M14 VssA_USB0, M15 VssA12_PLL1, M17 VssA12_PLL0, N3 SATA_REG, N4 SATA_VDD3, N5 Vss-26, N6 DVDD18-8, N7 RVDD-2, N8 CVDD-17, N9 DVDD18-9, N10 DVDD18-10, N11 Vss-27, N12 Vss-28, N13 DVDD3318-C-5, N14 USB0_VDDA18, N15 VDDA12_PLL1, N16 VssA33_USBO, N17 USB0_VDDA12, N18 USB0_VDDA33, P1 SATA_VDD1, P2 SATA_VDD2, P3 SATA_VDDR, P5 DVDD3318-C-6, P6 DVDD3318-C-7, P7 DVDD18-11, P8 DVDD18-12, P9 DVDD18-13, P10 DVDD18-14, P11 Vss-29, P12 DVDD3318-C-8, P13 DVDD18-15, P14 USB1_VDDA18, P15 USB1_VDDA33, R4 DVDD3318-C-9, R6 DDR_VREF, R7 DVDD18-16, R8 DVDD18-17, R9 DVDD18-18, R13 DVDD18-19, T19 VPP(RSV), U12 DDR_ZP

## OPTO1_1
designator U?
pins: 1, 2, 3, 4

## OSC-3.2.x2.5
designator B?
pins: 1 EN, 2 GND, 3 OUT, 4 VCC

## P3T1755
designator D?  MEGA_ID: SBK
Desription: Potisk; Value: P3T1755
footprint ZTSSOP8
pins: 1 SDA, 2 SCL, 3 ~{ALERT}, 4 GND, 5 A2, 6 A1, 7 A0, 8 VCC

## P MOS_CSD23381F4
designator V?, comment CSD23381F4
PSpiceTemplate: X^@REFDES %drain %gate %source @MODEL; Schematics' Source Library: C:\ORCAD_DATA\MYLIBRARIES\CICLONSEMI.OLB; Value: CSD23381F4
simulation model CSD23381F4
pins: 1 source, 2 gate, 3 drain

## P MOS_SI4948BEY_T1_E3
designator N?, comment SI4948BEY_T1_E3  MEGA:_ID: SBK
SI4948BEY-T1-E3, Dual P-channel MOSFET Transistor 2.4 A 60 V, 8-Pin SOIC; Manufacturer_Name: Vishay; OriginalSymbolOrigin: (0,0); PCB Footprint: SOIC127P600X175-8N; DeviceNumbering: Alpha; DevicesInPackage: 1; IsHeterogeneous: False; Height: 1.75 mm; Datasheet Link: http://www.vishay.com/docs/72847/si4948be.pdf; Arrow Price/Stock: https://www.arrow.com/en/products/si4948bey-t1-e3/vishay; Arrow Part Number: SI4948BEY-T1-E3; Mouser Price/Stock: https://www.mouser.com/Search/Refine.aspx?Keyword=781-SI4948BEY-T1-E3; Mouser Part Number: 781-SI4948BEY-T1-E3; Manufacturer_Part_Number: SI4948BEY-T1-E3; DeviceDesignator: A; DevicesInView: 1; PackageName: SI4948BEY_T1_E3; Value: SI4948BEY_T1_E3
footprint SOIC127P600X175-8N
pins: 1 S1, 2 G1, 3 S2, 4 G2, 5 D2, 6 D2_1, 7 D1, 8 D1_1

## PLD_5M80ZM68I5N
designator D?, comment 5M80ZM68I5N  MEGA_ID: SBK
CPLD - Complex Programmable Logic Devices CPLD - MAX V 64 Macro 52 IOs; Manufacturer_Name: Intel; OriginalSymbolOrigin: (0,0); PCB Footprint: BGA68C50P9X9_500X500X120; DeviceNumbering: Alpha; DeviceDesignator: A; DevicesInPackage: 1; IsHeterogeneous: False; Height: 1.2 mm; Datasheet Link: https://www.intel.com/content/dam/www/programmable/us/en/pdfs/literature/packaging/04r00344-01.pdf; Manufacturer_Part_Number: 5M80ZM68I5N; Mouser Part Number: 989-5M80ZM68I5N; DevicesInView: 1; PackageName: 5M80ZM68I5N; Value: 5M80ZM68I5N
footprint BGA68C50P9X9_500X500X120
pins: A1 IO_1, A2 IO_2, A3 IO_3, A4 IO_4, A5 IO_5, A6 IO_6, A7 IO_7, A8 IO_8, A9 IO_9, B1 IO_10, B2 IO_11, B3 IO_12, B4 IO_13, B5 IO_14, B6 IO_15, B7 IO_16, B8 IO_17, B9 IO_18, C1 IO_19, C2 IO_20, C4 VCCIO2_1, C5 GND_1, C6 GND_2, C8 IO_21, C9 IO_22, D1 IO_23, D2 IO_24, D3 VCCIO1_1, D7 VCCINT, D8 IO_25, D9 IO_26, E1 IO_27, E2 IO_28, E3 GND_3, E7 GND_4, E8 IO_29, E9 IO_30, F1 GND_5, F2 IO_31, F3 IO_32, F7 VCCIO2_2, F8 IO_33, F9 IO_34, G1 TMS, G2 IO_35, G4 VCCIO1_2, G5 GND_6, G6 IO_36, G8 IO_37, G9 IO_38, H1 TDI, H2 TDO, H3 IO_39, H4 IO_40, H5 IO_41, H6 IO_42, H7 IO_43, H8 IO_44, H9 IO_45, J1 TCK, J2 IO_46, J3 IO_47, J4 IO_48, J5 GND_7, J6 IO_49, J7 IO_50, J8 IO_51, J9 IO_52

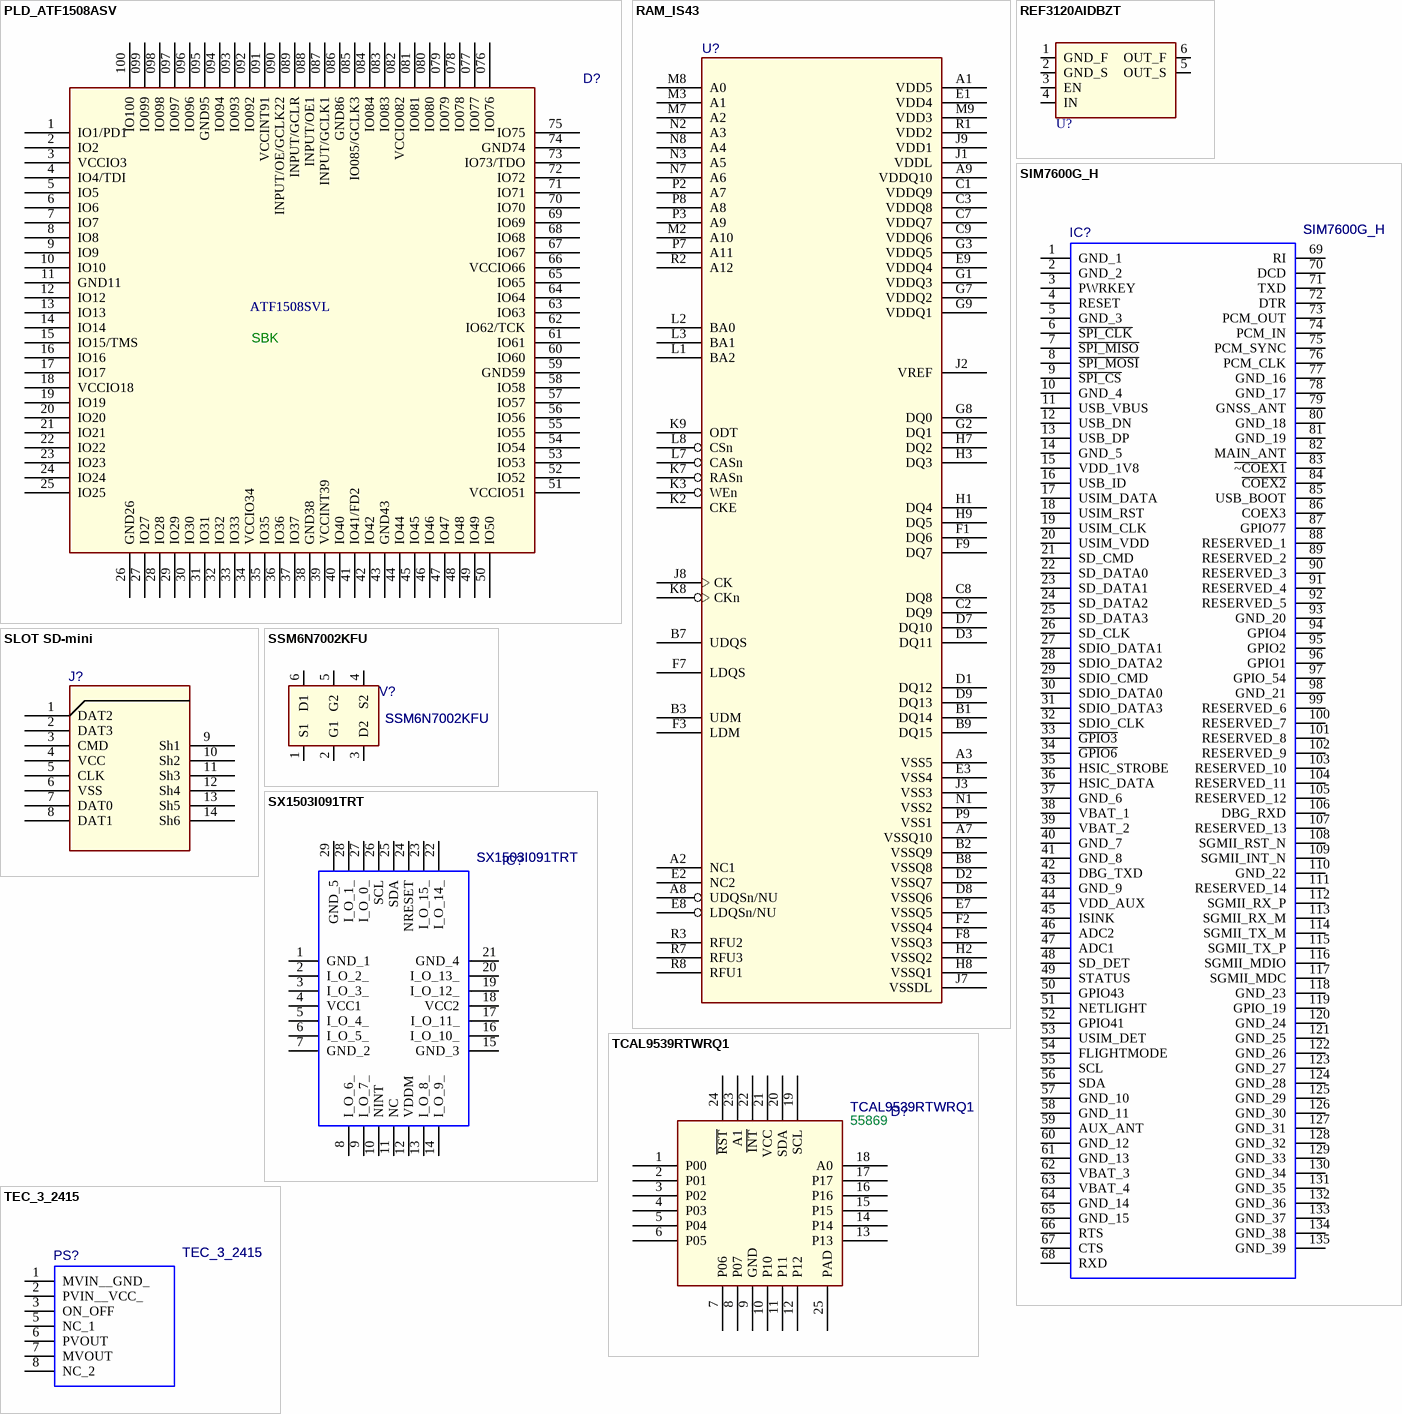
[diagram p7: symbols PLD_ATF1508ASV to TEC_3_2415]

## PLD_ATF1508ASV
designator D?, comment ATF1508SVL  MEGA_ID: SBK
Value: ATF1508SVL
footprint ZLQLP100
pins: 1 IO1/PD1, 2 IO2, 3 VCCIO3, 4 IO4/TDI, 5 IO5, 6 IO6, 7 IO7, 8 IO8, 9 IO9, 10 IO10, 11 GND11, 12 IO12, 13 IO13, 14 IO14, 15 IO15/TMS, 16 IO16, 17 IO17, 18 VCCIO18, 19 IO19, 20 IO20, 21 IO21, 22 IO22, 23 IO23, 24 IO24, 25 IO25, 26 GND26, 27 IO27, 28 IO28, 29 IO29, 30 IO30, 31 IO31, 32 IO32, 33 IO33, 34 VCCIO34, 35 IO35, 36 IO36, 37 IO37, 38 GND38, 39 VCCINT39, 40 IO40, 41 IO41/FD2, 42 IO42, 43 GND43, 44 IO44, 45 IO45, 46 IO46, 47 IO47, 48 IO48, 49 IO49, 50 IO50, 51 VCCIO51, 52 IO52, 53 IO53, 54 IO54, 55 IO55, 56 IO56, 57 IO57, 58 IO58, 59 GND59, 60 IO60, 61 IO61, 62 IO62/TCK, 63 IO63, 64 IO64, 65 IO65, 66 VCCIO66, 67 IO67, 68 IO68, 69 IO69, 70 IO70, 71 IO71, 72 IO72, 73 IO73/TDO, 74 GND74, 75 IO75, 076 IO076, 077 IO077, 078 IO078, 079 IO079, 080 IO080, 081 IO081, 082 VCCIO082, 083 IO083, 084 IO084, 085 IO085/GCLK3, 086 GND86, 087 INPUT/GCLK1, 088 INPUT/OE1, 089 INPUT/GCLR, 090 INPUT/OE/GCLK22, 091 VCCINT91, 092 IO092, 093 IO093, 094 IO094, 095 GND95, 096 IO096, 097 IO097, 098 IO098, 099 IO099, 100 IO100

## RAM_IS43
designator U?
footprint 84-FBGA
pins: A1 VDD5, A2 NC1, A3 VSS5, A7 VSSQ10, A8 UDQSn/NU, A9 VDDQ10, B1 DQ14, B2 VSSQ9, B3 UDM, B7 UDQS, B8 VSSQ8, B9 DQ15, C1 VDDQ9, C2 DQ9, C3 VDDQ8, C7 VDDQ7, C8 DQ8, C9 VDDQ6, D1 DQ12, D2 VSSQ7, D3 DQ11, D7 DQ10, D8 VSSQ6, D9 DQ13, E1 VDD4, E2 NC2, E3 VSS4, E7 VSSQ5, E8 LDQSn/NU, E9 VDDQ4, F1 DQ6, F2 VSSQ4, F3 LDM, F7 LDQS, F8 VSSQ3, F9 DQ7, G1 VDDQ3, G2 DQ1, G3 VDDQ5, G7 VDDQ2, G8 DQ0, G9 VDDQ1, H1 DQ4, H2 VSSQ2, H3 DQ3, H7 DQ2, H8 VSSQ1, H9 DQ5, J1 VDDL, J2 VREF, J3 VSS3, J7 VSSDL, J8 CK, J9 VDD1, K2 CKE, K3 WEn, K7 RASn, K8 CKn, K9 ODT, L1 BA2, L2 BA0, L3 BA1, L7 CASn, L8 CSn, M2 A10, M3 A1, M7 A2, M8 A0, M9 VDD3, N1 VSS2, N2 A3, N3 A5, N7 A6, N8 A4, P2 A7, P3 A9, P7 A11, P8 A8, P9 VSS1, R1 VDD2, R2 A12, R3 RFU2, R7 RFU3, R8 RFU1

## REF3120AIDBZT
designator U?  (value not drawn)
pins: 1 GND_F, 2 GND_S, 3 EN, 4 IN, 5 OUT_S, 6 OUT_F

## SIM7600G_H
designator IC?
LTE-FDD/LTE TDD/HSPA+/UMTS/EDGE/GPRS/GSM module solution; Manufacturer_Name: SIMCOM; Manufacturer_Part_Number: SIM7600G-H; IsHeterogeneous: False; DevicesInView: 1; DeviceDesignator: A; DeviceNumbering: Alpha; PCB Footprint: SIM7600GH; OriginalSymbolOrigin: (0,0); PackageName: SIM7600G_H; DevicesInPackage: 1; Datasheet Link: https://www.waveshare.com/w/upload/e/e6/SIM7600G_SIM7600G-H_Hardware_Design_V1.00.pdf; Height: 3.1 mm; Value: SIM7600G_H
footprint SIM7600GH
pins: 1 GND_1, 2 GND_2, 3 PWRKEY, 4 RESET, 5 GND_3, 6 ~{SPI_CLK}, 7 ~{SPI_MISO}, 8 ~{SPI_MOSI}, 9 ~{SPI_CS}, 10 GND_4, 11 USB_VBUS, 12 USB_DN, 13 USB_DP, 14 GND_5, 15 VDD_1V8, 16 USB_ID, 17 USIM_DATA, 18 USIM_RST, 19 USIM_CLK, 20 USIM_VDD, 21 SD_CMD, 22 SD_DATA0, 23 SD_DATA1, 24 SD_DATA2, 25 SD_DATA3, 26 SD_CLK, 27 SDIO_DATA1, 28 SDIO_DATA2, 29 SDIO_CMD, 30 SDIO_DATA0, 31 SDIO_DATA3, 32 SDIO_CLK, 33 ~{GPIO3}, 34 ~{GPIO6}, 35 HSIC_STROBE, 36 HSIC_DATA, 37 GND_6, 38 VBAT_1, 39 VBAT_2, 40 GND_7, 41 GND_8, 42 DBG_TXD, 43 GND_9, 44 VDD_AUX, 45 ISINK, 46 ADC2, 47 ADC1, 48 SD_DET, 49 STATUS, 50 GPIO43, 51 NETLIGHT, 52 GPIO41, 53 USIM_DET, 54 FLIGHTMODE, 55 SCL, 56 SDA, 57 GND_10, 58 GND_11, 59 AUX_ANT, 60 GND_12, 61 GND_13, 62 VBAT_3, 63 VBAT_4, 64 GND_14, 65 GND_15, 66 RTS, 67 CTS, 68 RXD, 69 RI, 70 DCD, 71 TXD, 72 DTR, 73 PCM_OUT, 74 PCM_IN, 75 PCM_SYNC, 76 PCM_CLK, 77 GND_16, 78 GND_17, 79 GNSS_ANT, 80 GND_18, 81 GND_19, 82 MAIN_ANT, 83 ~{~}~{COEX1}, 84 ~{COEX2}, 85 USB_BOOT, 86 COEX3, 87 GPIO77, 88 RESERVED_1, 89 RESERVED_2, 90 RESERVED_3, 91 RESERVED_4, 92 RESERVED_5, 93 GND_20, 94 GPIO4, 95 GPIO2, 96 GPIO1, 97 GPIO_54, 98 GND_21, 99 RESERVED_6, 100 RESERVED_7, 101 RESERVED_8, 102 RESERVED_9, 103 RESERVED_10, 104 RESERVED_11, 105 RESERVED_12, 106 DBG_RXD, 107 RESERVED_13, 108 SGMII_RST_N, 109 SGMII_INT_N, 110 GND_22, 111 RESERVED_14, 112 SGMII_RX_P, 113 SGMII_RX_M, 114 SGMII_TX_M, 115 SGMII_TX_P, 116 SGMII_MDIO, 117 SGMII_MDC, 118 GND_23, 119 GPIO_19, 120 GND_24, 121 GND_25, 122 GND_26, 123 GND_27, 124 GND_28, 125 GND_29, 126 GND_30, 127 GND_31, 128 GND_32, 129 GND_33, 130 GND_34, 131 GND_35, 132 GND_36, 133 GND_37, 134 GND_38, 135 GND_39

## SLOT SD-mini
designator J?
pins: 1 DAT2, 2 DAT3, 3 CMD, 4 VCC, 5 CLK, 6 VSS, 7 DAT0, 8 DAT1, 9 Sh1, 10 Sh2, 11 Sh3, 12 Sh4, 13 Sh5, 14 Sh6

## SSM6N7002KFU
designator V?
Value: SSM6N7002KFU
footprint ZSO363
pins: 1 S1, 2 G1, 3 D2, 4 S2, 5 G2, 6 D1

## SX1503I091TRT
designator IC?
Interface - I/O Expanders 16 CHANNEL HIGH VOLTAGE GPIO; Manufacturer_Name: SEMTECH; OriginalSymbolOrigin: (0,0); PCB Footprint: QFN40P400X400X60-29N-D; DeviceNumbering: Alpha; DeviceDesignator: A; DevicesInPackage: 1; IsHeterogeneous: False; Height: 0.6 mm; Datasheet Link: https://componentsearchengine.com/Datasheets/1/SX1503I091TRT.pdf; Arrow Price/Stock: https://www.arrow.com/en/products/sx1503i091trt/semtech?region=nac; Arrow Part Number: SX1503I091TRT; Mouser Part Number: 947-SX1503I091TRT; Manufacturer_Part_Number: SX1503I091TRT; DevicesInView: 1; PackageName: SX1503I091TRT; Value: SX1503I091TRT
footprint QFN40P400X400X60-29N-D
pins: 1 GND_1, 2 I_O_2_, 3 I_O_3_, 4 VCC1, 5 I_O_4_, 6 I_O_5_, 7 GND_2, 8 I_O_6_, 9 I_O_7_, 10 NINT, 11 NC, 12 VDDM, 13 I_O_8_, 14 I_O_9_, 15 GND_3, 16 I_O_10_, 17 I_O_11_, 18 VCC2, 19 I_O_12_, 20 I_O_13_, 21 GND_4, 22 I_O_14_, 23 I_O_15_, 24 NRESET, 25 SDA, 26 SCL, 27 I_O_0_, 28 I_O_1_, 29 GND_5

## TCAL9539RTWRQ1
designator D?  meGa_id: 55869
Interface - I/O Expanders 16 CHANNEL HIGH VOLTAGE GPIO; Manufacturer_Part_Number: SX1503I091TRT; Manufacturer_Name: SEMTECH; OriginalSymbolOrigin: (0,0); PCB Footprint: QFN40P400X400X60-29N-D; DeviceNumbering: Alpha; DeviceDesignator: A; DevicesInPackage: 1; IsHeterogeneous: False; Height: 0.6 mm; Datasheet Link: https://componentsearchengine.com/Datasheets/1/SX1503I091TRT.pdf; Arrow Price/Stock: https://www.arrow.com/en/products/sx1503i091trt/semtech?region=nac; Arrow Part Number: TCAL9539RTWRQ1; Mouser Part Number: 947-SX1503I091TRT; DevicesInView: 1; PackageName: SX1503I091TRT; Value: TCAL9539RTWRQ1
pins: 1 P00, 2 P01, 3 P02, 4 P03, 5 P04, 6 P05, 7 P06, 8 P07, 9 GND, 10 P10, 11 P11, 12 P12, 13 P13, 14 P14, 15 P15, 16 P16, 17 P17, 18 A0, 19 SCL, 20 SDA, 21 VCC, 22 ~{INT}, 23 A1, 24 ~{RST}, 25 PAD

## TEC_3_2415
designator PS?
3 Watt DC/DC converter, industrial, 2:1 input, cost efficient design, high operating temperature, regulated, encapsulated, SIP-8; Manufacturer_Part_Number: TEC 3-2415; Manufacturer_Name: Traco Power; OriginalSymbolOrigin: (0,0); PCB Footprint: TEC32415; DeviceNumbering: Alpha; DeviceDesignator: A; DevicesInPackage: 1; IsHeterogeneous: False; Height: 11.7 mm; Datasheet Link: https://tracopower.com/tec3-datasheet/; Mouser Part Number: 495-TEC3-2415; DevicesInView: 1; PackageName: TEC_3_2415; Value: TEC_3_2415
footprint TEC32415
pins: 1 MVIN__GND_, 2 PVIN__VCC_, 3 ON_OFF, 5 NC_1, 6 PVOUT, 7 MVOUT, 8 NC_2

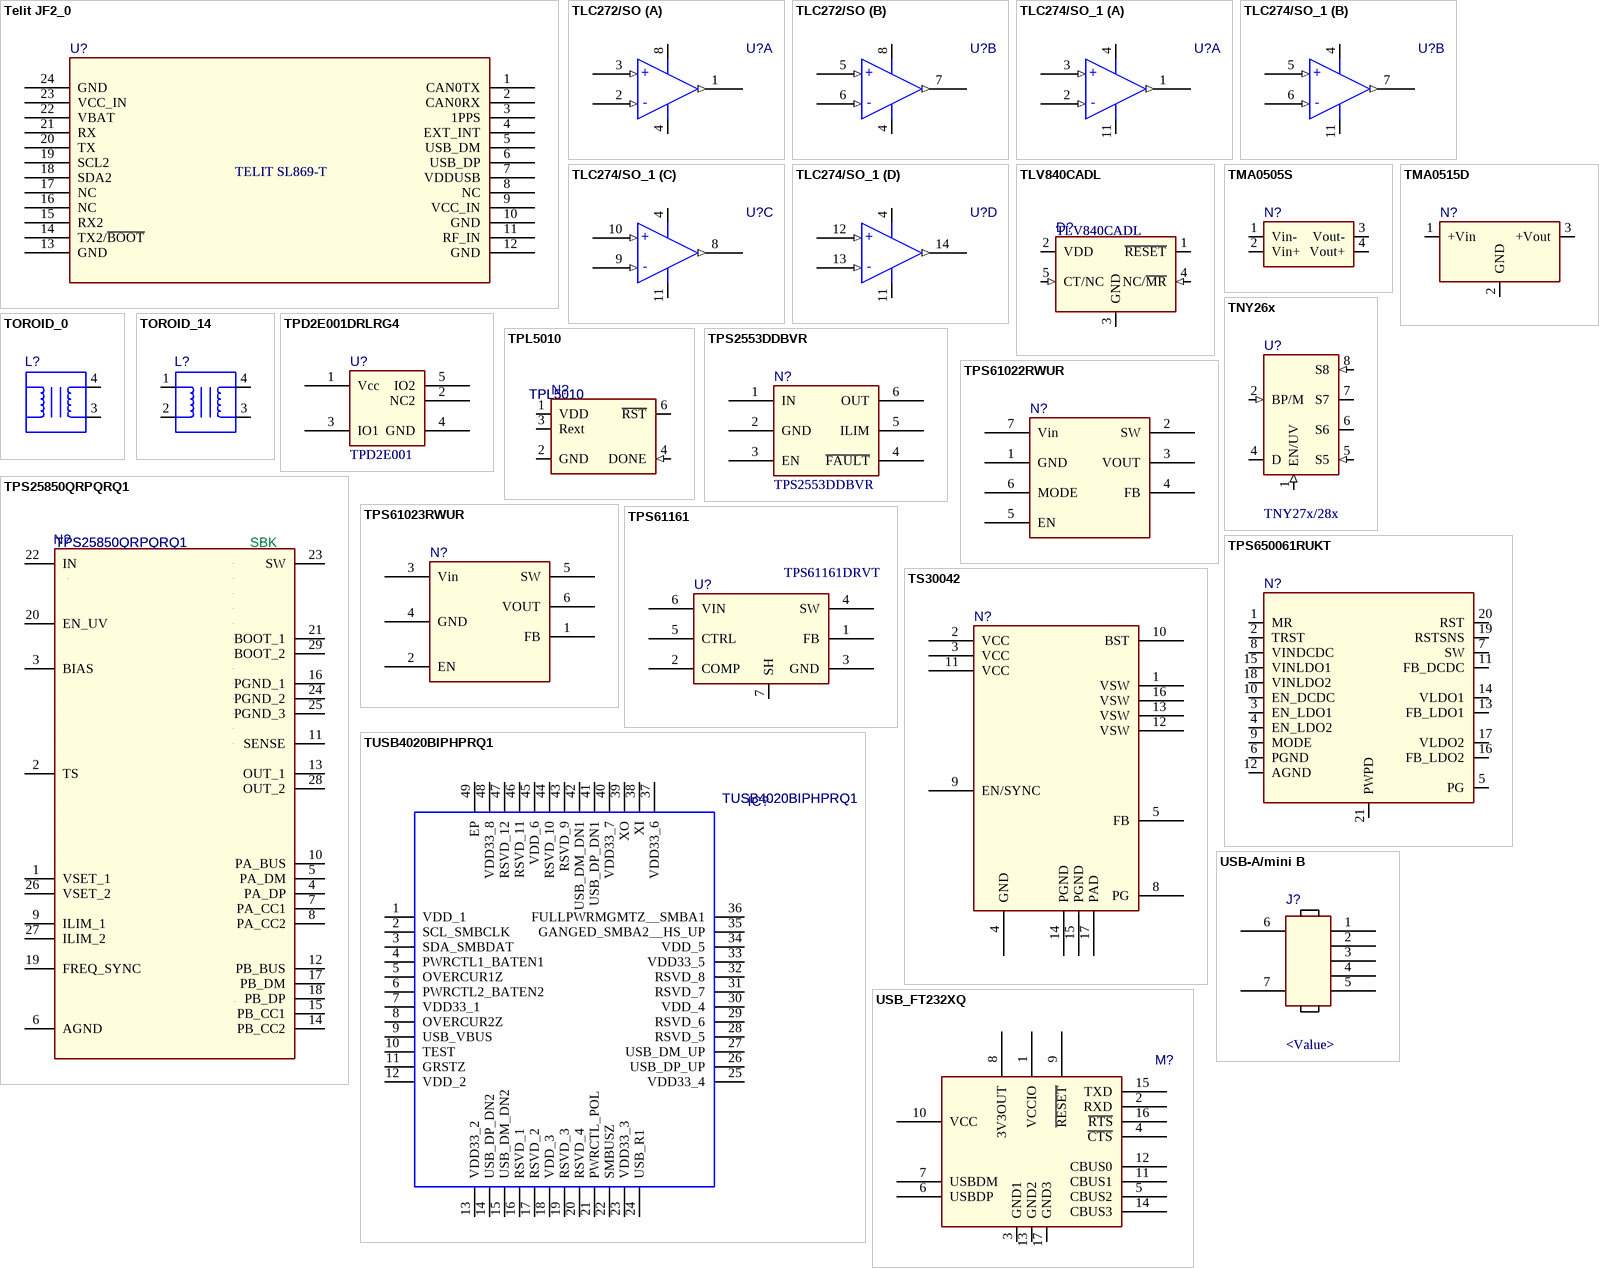
[diagram p8: symbols Telit JF2_0 to USB_FT232XQ]

## Telit JF2_0
designator U?, comment TELIT SL869-T
Value: TELIT SL869-T
pins: 1 CAN0TX, 2 CAN0RX, 3 1PPS, 4 EXT_INT, 5 USB_DM, 6 USB_DP, 7 VDDUSB, 8 NC, 9 VCC_IN, 10 GND, 11 RF_IN, 12 GND, 13 GND, 14 TX2/~{BOOT}, 15 RX2, 16 NC, 17 NC, 18 SDA2, 19 SCL2, 20 TX, 21 RX, 22 VBAT, 23 VCC_IN, 24 GND

## TLC272/SO
designator U?
part A pins: 1 OUT (out), 2 -IN (in), 3 +IN (in), 4 GND, 8 VCC
part B pins: 4 GND, 5 +IN (in), 6 -IN (in), 7 OUT (out), 8 VCC
part A text: +; -
part B text: +; -

## TLC274/SO_1
designator U?
part A pins: 1 OUT (out), 2 IN- (in), 3 IN+ (in), 4 VCC, 11 GND
part B pins: 4 VCC, 5 IN+ (in), 6 IN- (in), 7 OUT (out), 11 GND
part C pins: 4 VCC, 8 OUT (out), 9 IN- (in), 10 IN+ (in), 11 GND
part D pins: 4 VCC, 11 GND, 12 IN+ (in), 13 IN- (in), 14 OUT (out)
part A text: +; -
part B text: +; -
part C text: +; -
part D text: +; -

## TLV840CADL
designator D?
Value: TLV840CADL
footprint ZSOT23_5
pins: 1 ~{RESET} (oc), 2 VDD (power), 3 GND (power), 4 NC/~{MR} (in), 5 CT/NC (in)

## TMA0505S
designator N?
pins: 1 Vin-, 2 Vin+, 3 Vout-, 4 Vout+

## TMA0515D
designator N?
pins: 1 +Vin, 2 GND, 3 +Vout

## TNY26x
designator U?, comment TNY27x/28x
Value: TNY27x/28x
pins: 1 EN/UV (in), 2 BP/M (in), 4 D, 5 S5 (in), 6 S6, 7 S7, 8 S8 (in)

## TOROID_0
designator L?
pins: 3, 4

## TOROID_14
designator L?
footprint TOR_180_95_4_PLAST2
pins: 1 K, 2 L, 3, 4

## TPD2E001DRLRG4
designator U?, comment TPD2E001
Value: TPD2E001
footprint SOT-533
pins: 1 Vcc, 2 NC2, 3 IO1, 4 GND, 5 IO2

## TPL5010
designator N?
Value: TPL5010
footprint TO92A
pins: 1 VDD, 2 GND, 3 Rext (io), 4 DONE (in), 6 ~{RST}

## TPS2553DDBVR
designator N?
Value: TPS2553DDBVR
footprint ZSOT23-6
pins: 1 IN, 2 GND, 3 EN, 4 ~{FAULT}, 5 ILIM, 6 OUT

## TPS25850QRPQRQ1
designator N?  MEgA_ID: SBK
Switching Voltage Regulators Dual 3-A USB Type-C charging ports controller with programmable current limit and thermal management 25-VQFN-HR -40 to 125; Manufacturer_Name: Texas Instruments; OriginalSymbolOrigin: (0,0); PCB Footprint: TPS25858QRPQRQ1; DeviceNumbering: Alpha; DeviceDesignator: A; DevicesInPackage: 1; IsHeterogeneous: False; Height: 1 mm; Datasheet Link: https://www.ti.com/lit/ds/symlink/tps25850-q1.pdf?ts=1680086987939&ref_url=httpsýAüFüFwww.ti.comüFproductüFTPS25850-Q1ýFutm_sourceýDgoogleüutm_mediumýDcpcüutm_campaignýDapp-psil-null-prodfolderdynamic-cpc-pf-google-eu_in; Manufacturer_Part_Number: TPS25850QRPQRQ1; Mouser Part Number: 595-TPS25850QRPQRQ1; DevicesInView: 1; PackageName: TPS25850QRPQRQ1; Value: TPS25850QRPQRQ1
footprint ZTPS25858QRPQRQ1
pins: 1 VSET_1, 2 TS, 3 BIAS, 4 PA_DP, 5 PA_DM, 6 AGND, 7 PA_CC1, 8 PA_CC2, 9 ILIM_1, 10 PA_BUS, 11 SENSE, 12 PB_BUS, 13 OUT_1, 14 PB_CC2, 15 PB_CC1, 16 PGND_1, 17 PB_DM, 18 PB_DP, 19 FREQ_SYNC, 20 EN_UV, 21 BOOT_1, 22 IN, 23 SW, 24 PGND_2, 25 PGND_3, 26 VSET_2, 27 ILIM_2, 28 OUT_2, 29 BOOT_2

## TPS61022RWUR
designator N?
pins: 1 GND, 2 SW, 3 VOUT, 4 FB, 5 EN, 6 MODE, 7 Vin

## TPS61023RWUR
designator N?
pins: 1 FB, 2 EN, 3 Vin, 4 GND, 5 SW, 6 VOUT

## TPS61161
designator U?, comment TPS61161DRVT
Value: TPS61161DRVT
pins: 1 FB, 2 COMP, 3 GND, 4 SW, 5 CTRL, 6 VIN, 7 SH

## TPS650061RUKT
designator N?
footprint SOT23_5
pins: 1 MR, 2 TRST, 3 EN_LDO1, 4 EN_LDO2, 5 PG, 6 PGND, 7 SW, 8 VINDCDC, 9 MODE, 10 EN_DCDC, 11 FB_DCDC, 12 AGND, 13 FB_LDO1, 14 VLDO1, 15 VINLDO1, 16 FB_LDO2, 17 VLDO2, 18 VINLDO2, 19 RSTSNS, 20 RST, 21 PWPD

## TS30042
designator N?
pins: 1 VSW, 2 VCC, 3 VCC, 4 GND, 5 FB, 8 PG, 9 EN/SYNC, 10 BST, 11 VCC, 12 VSW, 13 VSW, 14 PGND, 15 PGND, 16 VSW, 17 PAD

## TUSB4020BIPHPRQ1
designator IC?
Automotive Two-Port High-Speed 480Mbps USB 2.0 Hub; Manufacturer_Name: Texas Instruments; OriginalSymbolOrigin: (0,0); PCB Footprint: QFP50P900X900X120-49N; DeviceNumbering: Alpha; DeviceDesignator: A; DevicesInPackage: 1; IsHeterogeneous: False; Height: 1.2 mm; Datasheet Link: http://www.ti.com/lit/gpn/tusb4020bi-q1; Manufacturer_Part_Number: TUSB4020BIPHPRQ1; Mouser Part Number: 595-TUSB4020BIPHPRQ1; DevicesInView: 1; PackageName: TUSB4020BIPHPRQ1; Value: TUSB4020BIPHPRQ1
footprint QFP50P900X900X120-49N
pins: 1 VDD_1, 2 SCL_SMBCLK, 3 SDA_SMBDAT, 4 PWRCTL1_BATEN1, 5 OVERCUR1Z, 6 PWRCTL2_BATEN2, 7 VDD33_1, 8 OVERCUR2Z, 9 USB_VBUS, 10 TEST, 11 GRSTZ, 12 VDD_2, 13 VDD33_2, 14 USB_DP_DN2, 15 USB_DM_DN2, 16 RSVD_1, 17 RSVD_2, 18 VDD_3, 19 RSVD_3, 20 RSVD_4, 21 PWRCTL_POL, 22 SMBUSZ, 23 VDD33_3, 24 USB_R1, 25 VDD33_4, 26 USB_DP_UP, 27 USB_DM_UP, 28 RSVD_5, 29 RSVD_6, 30 VDD_4, 31 RSVD_7, 32 RSVD_8, 33 VDD33_5, 34 VDD_5, 35 GANGED_SMBA2__HS_UP, 36 FULLPWRMGMTZ__SMBA1, 37 VDD33_6, 38 XI, 39 XO, 40 VDD33_7, 41 USB_DP_DN1, 42 USB_DM_DN1, 43 RSVD_9, 44 RSVD_10, 45 VDD_6, 46 RSVD_11, 47 RSVD_12, 48 VDD33_8, 49 EP

## USB-A/mini B
designator J?, comment <Value>
Value: <Value>
pins: 1, 2, 3, 4, 5, 6, 7

## USB_FT232XQ
designator M?
pins: 1 VCCIO, 2 RXD, 3 GND1, 4 ~{CTS}, 5 CBUS2, 6 USBDP, 7 USBDM, 8 3V3OUT, 9 ~{RESET}, 10 VCC, 11 CBUS1, 12 CBUS0, 13 GND2, 14 CBUS3, 15 TXD, 16 ~{RTS}, 17 GND3
1 alternate drawing of the same symbol

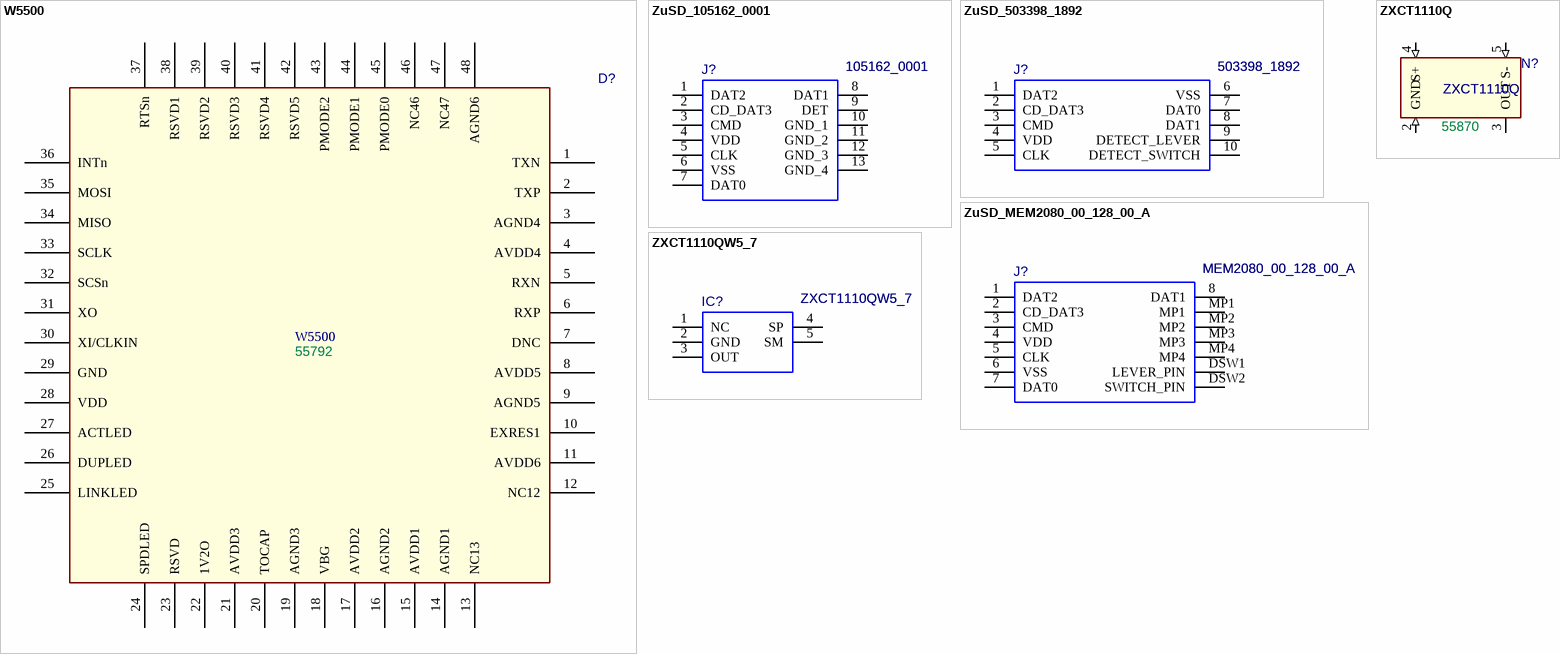
[diagram p9: symbols W5500 to ZXCT1110QW5_7]

## W5500
designator D?  MEgA_ID: 55792
Value: W5500
footprint QFP50P900X900X16048N
pins: 1 TXN, 2 TXP, 3 AGND4, 4 AVDD4, 5 RXN, 6 RXP, 7 DNC, 8 AVDD5, 9 AGND5, 10 EXRES1, 11 AVDD6, 12 NC12, 13 NC13, 14 AGND1, 15 AVDD1, 16 AGND2, 17 AVDD2, 18 VBG, 19 AGND3, 20 TOCAP, 21 AVDD3, 22 1V2O, 23 RSVD, 24 SPDLED, 25 LINKLED, 26 DUPLED, 27 ACTLED, 28 VDD, 29 GND, 30 XI/CLKIN, 31 XO, 32 SCSn, 33 SCLK, 34 MISO, 35 MOSI, 36 INTn, 37 RTSn, 38 RSVD1, 39 RSVD2, 40 RSVD3, 41 RSVD4, 42 RSVD5, 43 PMODE2, 44 PMODE1, 45 PMODE0, 46 NC46, 47 NC47, 48 AGND6

## ZuSD_105162_0001
designator J?, comment 105162_0001
Memory Card Connectors 1.45H MICRO SD HEADER WITH D/C PIN; Manufacturer_Part_Number: 105162-0001; Manufacturer_Name: Molex; OriginalSymbolOrigin: (0,0); NC: 14,15; DeviceNumbering: Alpha; DeviceDesignator: A; DevicesInPackage: 1; IsHeterogeneous: False; Datasheet Link: http://www.molex.com/webdocs/datasheets/pdf/en-us//1051620001_MEMORY_CARD_SOCKET.pdf; Mouser Part Number: 538-105162-0001; PCB Footprint: 105162-0001; DevicesInView: 1; PackageName: 105162_0001; Value: 105162_0001
footprint 105162-0001
pins: 1 DAT2, 2 CD_DAT3, 3 CMD, 4 VDD, 5 CLK, 6 VSS, 7 DAT0, 8 DAT1, 9 DET, 10 GND_1, 11 GND_2, 12 GND_3, 13 GND_4

## ZuSD_503398_1892
designator J?, comment 503398_1892
MicroSD SMT Push-Push 1.28mm height MicroSD SMT Push-Push 1.28mm height; Manufacturer_Part_Number: 503398-1892; Manufacturer_Name: Molex; OriginalSymbolOrigin: (0,0); NC: 11,12,13,14; PCB Footprint: 503398-1892-1; DeviceNumbering: Alpha; DeviceDesignator: A; DevicesInPackage: 1; IsHeterogeneous: False; Datasheet Link: http://www.molex.com/webdocs/datasheets/pdf/en-us//5033981892_MEMORY_CARD_SOCKET.pdf; Mouser Part Number: 538-503398-1892; DevicesInView: 1; PackageName: 503398_1892; Value: 503398_1892
footprint 503398-1892-1
pins: 1 DAT2, 2 CD_DAT3, 3 CMD, 4 VDD, 5 CLK, 6 VSS, 7 DAT0, 8 DAT1, 9 DETECT_LEVER, 10 DETECT_SWITCH

## ZuSD_MEM2080_00_128_00_A
designator J?, comment MEM2080_00_128_00_A
Memory Card Connectors Micro SD, Push Push, SMT, Card Entry Normal, 1.28 mm profile; Manufacturer_Part_Number: MEM2080-00-128-00-A; Manufacturer_Name: GCT (GLOBAL CONNECTOR TECHNOLOGY); OriginalSymbolOrigin: (0,0); PCB Footprint: MEM20800012800A; DeviceNumbering: Alpha; DeviceDesignator: A; DevicesInPackage: 1; IsHeterogeneous: False; Height: 1.48 mm; Datasheet Link: https://gct.co/files/drawings/mem2080.pdf?v=a9dd5643-7d1c-4e6b-bf46-1b82bcb8595f; Mouser Part Number: 640-MEM2080-0012800A; DevicesInView: 1; PackageName: MEM2080_00_128_00_A; Value: MEM2080_00_128_00_A
footprint MEM20800012800A
pins: 1 DAT2, 2 CD_DAT3, 3 CMD, 4 VDD, 5 CLK, 6 VSS, 7 DAT0, 8 DAT1, DSW1 LEVER_PIN, DSW2 SWITCH_PIN, MP1, MP2, MP3, MP4

## ZXCT1110Q
designator N?  MEGa_ID: 55870
Value: ZXCT1110Q
footprint ZSOT25
pins: 1 NC (power) hidden to NC, 2 GND (in), 3 OUT, 4 S+ (in), 5 S- (in)

## ZXCT1110QW5_7
designator IC?
Current & Power Monitors & Regulators Auto Grade MicPWR Current Monitor 3uA; Manufacturer_Part_Number: ZXCT1110QW5-7; Manufacturer_Name: Diodes Incorporated; OriginalSymbolOrigin: (0,0); PCB Footprint: SOT95P285X140-5N; DeviceNumbering: Alpha; DeviceDesignator: A; DevicesInPackage: 1; IsHeterogeneous: False; Height: 1.4 mm; Datasheet Link: https://www.diodes.com//assets/Datasheets/ZXCT1107-10Q.pdf; Mouser Part Number: 621-ZXCT1110QW5-7; DevicesInView: 1; PackageName: ZXCT1110QW5_7; Value: ZXCT1110QW5_7
footprint SOT95P285X140-5N
pins: 1 NC, 2 GND, 3 OUT, 4 SP, 5 SM